# Altium schematic symbol library nexnpvnk_library.SchLib: 128 symbols (part 1 of 2)
Pins are listed as number, name and electrical type; pins without a type are passive.

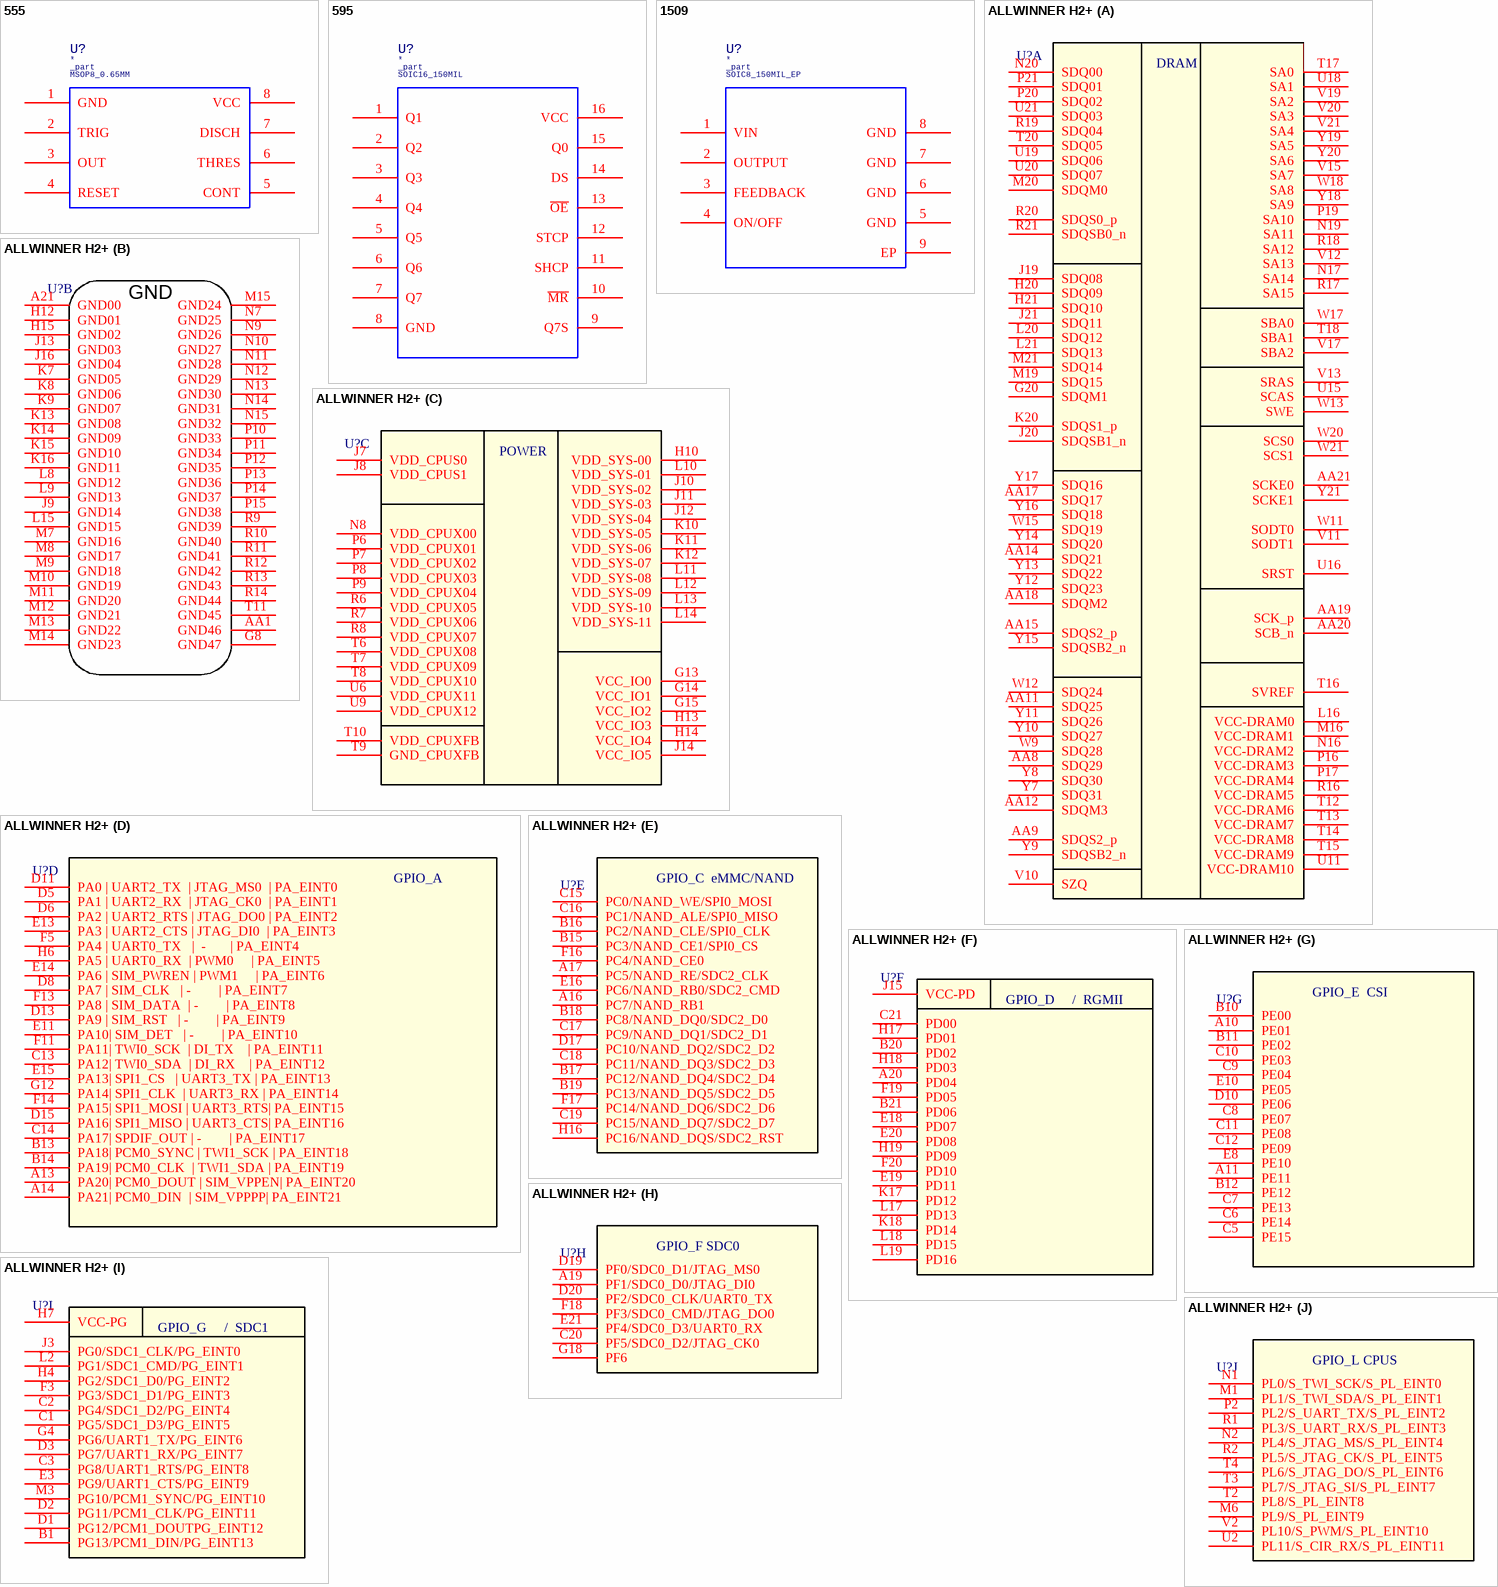
[diagram p0: symbols 555 to ALLWINNER H2+]

## 555
designator U?  Part Reference: _part
Manufacturer: _manufacturer
footprint MSOP8_0.65MM
footprint SOIC8_150MIL
footprint SSOP8
pins: 1 GND, 2 TRIG, 3 OUT, 4 RESET, 5 CONT, 6 THRES, 7 DISCH, 8 VCC

## 595
designator U?  Part Reference: _part
Manufacturer: _manufacturer
footprint SOIC16_150MIL
footprint SSOP16
pins: 1 Q1, 2 Q2, 3 Q3, 4 Q4, 5 Q5, 6 Q6, 7 Q7, 8 GND, 9 Q7S, 10 ~{MR}, 11 SHCP, 12 STCP, 13 ~{OE}, 14 DS, 15 Q0, 16 VCC

## 1509
designator U?  Part Reference: _part
Manufacturer: _manufacturer
footprint SOIC8_150MIL_EP
pins: 1 VIN, 2 OUTPUT, 3 FEEDBACK, 4 ON/OFF, 5 GND, 6 GND, 7 GND, 8 GND, 9 EP

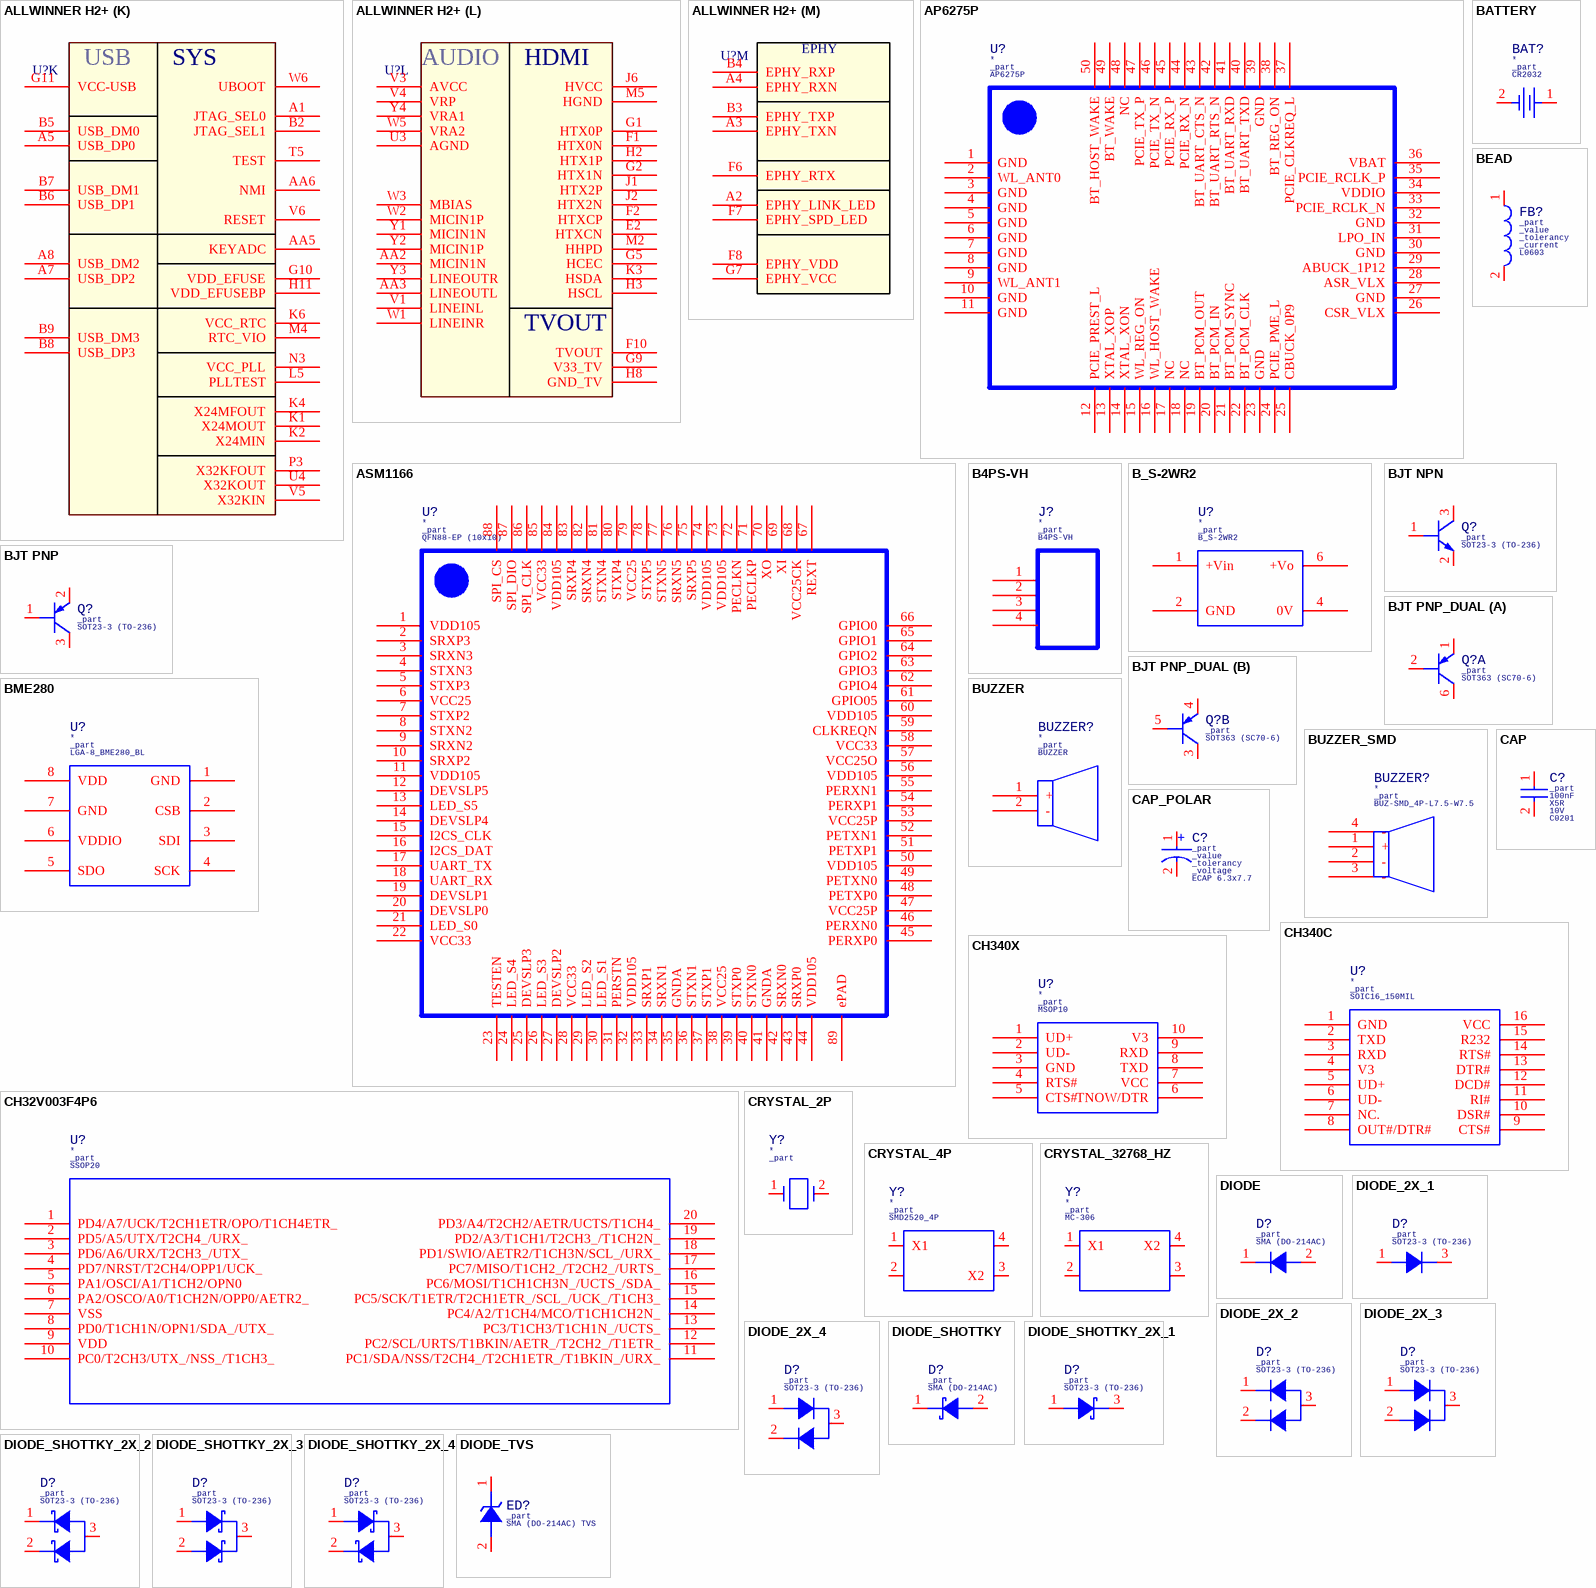
[diagram p1: symbols ALLWINNER H2+ to DIODE_TVS]

## ALLWINNER H2+
designator U?  (value not drawn)
footprint FBGA-347 (BGA, 21-Leads, Body 14,00x14,00mmx1,10mm, Pitch 0,65mm)
part A pins: AA8 SDQ29, AA9 SDQS2_p, AA11 SDQ25, AA12 SDQM3, AA14 SDQ21, AA15 SDQS2_p, AA17 SDQ17, AA18 SDQM2, AA19 SCK_p, AA20 SCB_n, AA21 SCKE0, G20 SDQM1, H20 SDQ09, H21 SDQ10, J19 SDQ08, J20 SDQSB1_n, J21 SDQ11, K20 SDQS1_p, L16 VCC-DRAM0, L20 SDQ12, L21 SDQ13, M16 VCC-DRAM1, M19 SDQ15, M20 SDQM0, M21 SDQ14, N16 VCC-DRAM2, N17 SA14, N19 SA11, N20 SDQ00, P16 VCC-DRAM3, P17 VCC-DRAM4, P19 SA10, P20 SDQ02, P21 SDQ01, R16 VCC-DRAM5, R17 SA15, R18 SA12, R19 SDQ04, R20 SDQS0_p, R21 SDQSB0_n, T12 VCC-DRAM6, T13 VCC-DRAM7, T14 VCC-DRAM8, T15 VCC-DRAM9, T16 SVREF, T17 SA0, T18 SBA1, T20 SDQ05, U11 VCC-DRAM10, U15 SCAS, U16 SRST, U18 SA1, U19 SDQ06, U20 SDQ07, U21 SDQ03, V10 SZQ, V11 SODT1, V12 SA13, V13 SRAS, V15 SA7, V17 SBA2, V19 SA2, V20 SA3, V21 SA4, W9 SDQ28, W11 SODT0, W12 SDQ24, W13 SWE, W15 SDQ19, W17 SBA0, W18 SA8, W20 SCS0, W21 SCS1, Y7 SDQ31, Y8 SDQ30, Y9 SDQSB2_n, Y10 SDQ27, Y11 SDQ26, Y12 SDQ23, Y13 SDQ22, Y14 SDQ20, Y15 SDQSB2_n, Y16 SDQ18, Y17 SDQ16, Y18 SA9, Y19 SA5, Y20 SA6, Y21 SCKE1
part B pins: A21 GND00 "-", AA1 GND46 "-", G8 GND47 "-", H12 GND01 "-", H15 GND02 "-", J9 GND14 "-", J13 GND03 "-", J16 GND04 "-", K7 GND05 "-", K8 GND06 "-", K9 GND07 "-", K13 GND08 "-", K14 GND09 "-", K15 GND10 "-", K16 GND11 "-", L8 GND12 "-", L9 GND13 "-", L15 GND15 "-", M7 GND16 "-", M8 GND17 "-", M9 GND18 "-", M10 GND19 "-", M11 GND20 "-", M12 GND21 "-", M13 GND22 "-", M14 GND23 "-", M15 GND24 "-", N7 GND25 "-", N9 GND26 "-", N10 GND27 "-", N11 GND28 "-", N12 GND29 "-", N13 GND30 "-", N14 GND31 "-", N15 GND32 "-", P10 GND33 "-", P11 GND34 "-", P12 GND35 "-", P13 GND36 "-", P14 GND37 "-", P15 GND38 "-", R9 GND39 "-", R10 GND40 "-", R11 GND41 "-", R12 GND42 "-", R13 GND43 "-", R14 GND44 "-", T11 GND45 "-"
part C pins: G13 VCC_IO0, G14 VCC_IO1, G15 VCC_IO2, H10 VDD_SYS-00, H13 VCC_IO3, H14 VCC_IO4, J7 VDD_CPUS0, J8 VDD_CPUS1, J10 VDD_SYS-02, J11 VDD_SYS-03, J12 VDD_SYS-04, J14 VCC_IO5, K10 VDD_SYS-05, K11 VDD_SYS-06, K12 VDD_SYS-07, L10 VDD_SYS-01, L11 VDD_SYS-08, L12 VDD_SYS-09, L13 VDD_SYS-10, L14 VDD_SYS-11, N8 VDD_CPUX00, P6 VDD_CPUX01, P7 VDD_CPUX02, P8 VDD_CPUX03, P9 VDD_CPUX04, R6 VDD_CPUX05, R7 VDD_CPUX06, R8 VDD_CPUX07, T6 VDD_CPUX08, T7 VDD_CPUX09, T8 VDD_CPUX10, T9 GND_CPUXFB, T10 VDD_CPUXFB, U6 VDD_CPUX11, U9 VDD_CPUX12
part D pins: A13 PA20| PCM0_DOUT | SIM_VPPEN| PA_EINT20, A14 PA21| PCM0_DIN  | SIM_VPPPP| PA_EINT21, B13 PA18| PCM0_SYNC | TWI1_SCK | PA_EINT18, B14 PA19| PCM0_CLK  | TWI1_SDA | PA_EINT19, C13 PA12| TWI0_SDA  | DI_RX    | PA_EINT12, C14 PA17| SPDIF_OUT | -        | PA_EINT17, D5 PA1 | UART2_RX  | JTAG_CK0  | PA_EINT1, D6 PA2 | UART2_RTS | JTAG_DO0 | PA_EINT2, D8 PA7 | SIM_CLK   | -        | PA_EINT7 , D11 PA0 | UART2_TX  | JTAG_MS0  | PA_EINT0, D13 PA9 | SIM_RST   | -        | PA_EINT9, D15 PA16| SPI1_MISO | UART3_CTS| PA_EINT16, E11 PA10| SIM_DET   | -        | PA_EINT10, E13 PA3 | UART2_CTS | JTAG_DI0  | PA_EINT3, E14 PA6 | SIM_PWREN | PWM1     | PA_EINT6, E15 PA13| SPI1_CS   | UART3_TX | PA_EINT13, F5 PA4 | UART0_TX   |  -       | PA_EINT4, F11 PA11| TWI0_SCK  | DI_TX    | PA_EINT11, F13 PA8 | SIM_DATA  | -        | PA_EINT8, F14 PA15| SPI1_MOSI | UART3_RTS| PA_EINT15, G12 PA14| SPI1_CLK  | UART3_RX | PA_EINT14, H6 PA5 | UART0_RX  | PWM0     | PA_EINT5
part E pins: A16 PC7/NAND_RB1, A17 PC5/NAND_RE/SDC2_CLK, B15 PC3/NAND_CE1/SPI0_CS, B16 PC2/NAND_CLE/SPI0_CLK , B17 PC12/NAND_DQ4/SDC2_D4, B18 PC8/NAND_DQ0/SDC2_D0, B19 PC13/NAND_DQ5/SDC2_D5, C15 PC0/NAND_WE/SPI0_MOSI, C16 PC1/NAND_ALE/SPI0_MISO, C17 PC9/NAND_DQ1/SDC2_D1, C18 PC11/NAND_DQ3/SDC2_D3, C19 PC15/NAND_DQ7/SDC2_D7, D17 PC10/NAND_DQ2/SDC2_D2, E16 PC6/NAND_RB0/SDC2_CMD, F16 PC4/NAND_CE0, F17 PC14/NAND_DQ6/SDC2_D6, H16 PC16/NAND_DQS/SDC2_RST
part F pins: A20 PD04, B20 PD02, B21 PD06, C21 PD00, E18 PD07, E19 PD11, E20 PD08, F19 PD05, F20 PD10, H17 PD01, H18 PD03, H19 PD09, J15 VCC-PD, K17 PD12, K18 PD14, L17 PD13, L18 PD15, L19 PD16
part G pins: A10 PE01, A11 PE11, B10 PE00, B11 PE02, B12 PE12, C5 PE15, C6 PE14, C7 PE13, C8 PE07, C9 PE04, C10 PE03, C11 PE08, C12 PE09, D10 PE06, E8 PE10, E10 PE05
part H pins: A19 PF1/SDC0_D0/JTAG_DI0, C20 PF5/SDC0_D2/JTAG_CK0, D19 PF0/SDC0_D1/JTAG_MS0 , D20 PF2/SDC0_CLK/UART0_TX, E21 PF4/SDC0_D3/UART0_RX, F18 PF3/SDC0_CMD/JTAG_DO0, G18 PF6
part I pins: B1 PG13/PCM1_DIN/PG_EINT13, C1 PG5/SDC1_D3/PG_EINT5, C2 PG4/SDC1_D2/PG_EINT4, C3 PG8/UART1_RTS/PG_EINT8, D1 PG12/PCM1_DOUTPG_EINT12, D2 PG11/PCM1_CLK/PG_EINT11, D3 PG7/UART1_RX/PG_EINT7, E3 PG9/UART1_CTS/PG_EINT9, F3 PG3/SDC1_D1/PG_EINT3, G4 PG6/UART1_TX/PG_EINT6, H4 PG2/SDC1_D0/PG_EINT2, H7 VCC-PG, J3 PG0/SDC1_CLK/PG_EINT0, L2 PG1/SDC1_CMD/PG_EINT1, M3 PG10/PCM1_SYNC/PG_EINT10
part J pins: M1 PL1/S_TWI_SDA/S_PL_EINT1, M6 PL9/S_PL_EINT9, N1 PL0/S_TWI_SCK/S_PL_EINT0, N2 PL4/S_JTAG_MS/S_PL_EINT4, P2 PL2/S_UART_TX/S_PL_EINT2, R1 PL3/S_UART_RX/S_PL_EINT3, R2 PL5/S_JTAG_CK/S_PL_EINT5, T2 PL8/S_PL_EINT8, T3 PL7/S_JTAG_SI/S_PL_EINT7, T4 PL6/S_JTAG_DO/S_PL_EINT6, U2 PL11/S_CIR_RX/S_PL_EINT11, V2 PL10/S_PWM/S_PL_EINT10
part K pins: A1 JTAG_SEL0, A5 USB_DP0, A7 USB_DP2, A8 USB_DM2, AA5 KEYADC, AA6 NMI, B2 JTAG_SEL1, B5 USB_DM0, B6 USB_DP1, B7 USB_DM1, B8 USB_DP3, B9 USB_DM3, G10 VDD_EFUSE, G11 VCC-USB, H11 VDD_EFUSEBP, K1 X24MOUT, K2 X24MIN, K4 X24MFOUT, K6 VCC_RTC, L5 PLLTEST, M4 RTC_VIO, N3 VCC_PLL, P3 X32KFOUT, T5 TEST, U4 X32KOUT, V5 X32KIN, V6 RESET, W6 UBOOT
part L pins: AA2 MICIN1N, AA3 LINEOUTL, E2 HTXCN, F1 HTX0N, F2 HTXCP, F10 TVOUT, G1 HTX0P, G2 HTX1N, G5 HCEC, G9 V33_TV, H2 HTX1P, H3 HSCL, H8 GND_TV, J1 HTX2P, J2 HTX2N, J6 HVCC, K3 HSDA, M2 HHPD, M5 HGND, U3 AGND, V1 LINEINL, V3 AVCC, V4 VRP, W1 LINEINR, W2 MICIN1P, W3 MBIAS, W5 VRA2, Y1 MICIN1N, Y2 MICIN1P, Y3 LINEOUTR, Y4 VRA1
part M pins: A2 EPHY_LINK_LED, A3 EPHY_TXN, A4 EPHY_RXN, B3 EPHY_TXP, B4 EPHY_RXP, F6 EPHY_RTX, F7 EPHY_SPD_LED, F8 EPHY_VDD, G7 EPHY_VCC 
part A text: DRAM
part B text: GND
part C text: POWER
part D text: GPIO_A
part E text: GPIO_C  eMMC/NAND
part F text: GPIO_D     /  RGMII
part G text: GPIO_E  CSI
part H text: GPIO_F SDC0
part I text: GPIO_G     /  SDC1
part J text: GPIO_L CPUS
part K text: USB; SYS
part L text: AUDIO; HDMI
part M text: EPHY

## AP6275P
designator U?  Part Reference: _part
Manufacturer: _manufacturer
footprint AP6275P
pins: 1 GND, 2 WL_ANT0, 3 GND, 4 GND, 5 GND, 6 GND, 7 GND, 8 GND, 9 WL_ANT1, 10 GND, 11 GND, 12 PCIE_PREST_L, 13 XTAL_XOP, 14 XTAL_XON, 15 WL_REG_ON, 16 WL_HOST_WAKE, 17 NC, 18 NC, 19 BT_PCM_OUT, 20 BT_PCM_IN, 21 BT_PCM_SYNC, 22 BT_PCM_CLK, 23 GND, 24 PCIE_PME_L, 25 CBUCK_0P9, 26 CSR_VLX, 27 GND, 28 ASR_VLX, 29 ABUCK_1P12, 30 GND, 31 LPO_IN, 32 GND, 33 PCIE_RCLK_N, 34 VDDIO, 35 PCIE_RCLK_P, 36 VBAT, 37 PCIE_CLKREQ_L, 38 BT_REG_ON, 39 GND, 40 BT_UART_TXD, 41 BT_UART_RXD, 42 BT_UART_RTS_N, 43 BT_UART_CTS_N, 44 PCIE_RX_N, 45 PCIE_RX_P, 46 PCIE_TX_N, 47 PCIE_TX_P, 48 NC, 49 BT_WAKE, 50 BT_HOST_WAKE

## ASM1166
designator U?  Part Reference: _part
Manufacturer: _manufacturer
footprint QFN88-EP (10x10) (QFN, 88-Leads, Body 10,00x10,00mm, Pitch 0,40mm, Thermal Pad 5,60x5,60mm, IPC Medium Density)
pins: 1 VDD105, 2 SRXP3, 3 SRXN3, 4 STXN3, 5 STXP3, 6 VCC25, 7 STXP2, 8 STXN2, 9 SRXN2, 10 SRXP2, 11 VDD105, 12 DEVSLP5, 13 LED_S5, 14 DEVSLP4, 15 I2CS_CLK, 16 I2CS_DAT, 17 UART_TX, 18 UART_RX, 19 DEVSLP1, 20 DEVSLP0, 21 LED_S0, 22 VCC33, 23 TESTEN, 24 LED_S4, 25 DEVSLP3, 26 LED_S3, 27 DEVSLP2, 28 VCC33, 29 LED_S2, 30 LED_S1, 31 PERSTN, 32 VDD105, 33 SRXP1, 34 SRXN1, 35 GNDA, 36 STXN1, 37 STXP1, 38 VCC25, 39 STXP0, 40 STXN0, 41 GNDA, 42 SRXN0, 43 SRXP0, 44 VDD105, 45 PERXP0, 46 PERXN0, 47 VCC25P, 48 PETXP0, 49 PETXN0, 50 VDD105, 51 PETXP1, 52 PETXN1, 53 VCC25P, 54 PERXP1, 55 PERXN1, 56 VDD105, 57 VCC25O, 58 VCC33, 59 CLKREQN, 60 VDD105, 61 GPIO05, 62 GPIO4, 63 GPIO3, 64 GPIO2, 65 GPIO1, 66 GPIO0, 67 REXT, 68 VCC25CK, 69 XI, 70 XO, 71 PECLKP, 72 PECLKN, 73 VDD105, 74 VDD105, 75 SRXP5, 76 SRXN5, 77 STXN5, 78 STXP5, 79 VCC25, 80 STXP4, 81 STXN4, 82 SRXN4, 83 SRXP4, 84 VDD105, 85 VCC33, 86 SPI_CLK, 87 SPI_DIO, 88 SPI_CS, 89 ePAD

## B4PS-VH
designator J?  Part Reference: _part
Manufacturer: _manufacturer
footprint B4PS-VH
pins: 1, 2, 3, 4

## B_S-2WR2
designator U?  Part Reference: _part
Manufacturer: _manufacturer
footprint B_S-2WR2
footprint B_S-2WR2_FLAT
pins: 1 +Vin, 2 GND, 4 0V, 6 +Vo

## BATTERY
designator BAT?  Part Reference: _part
Manufacturer: _manufacturer
footprint CR2032 (KLS5-CR2032-01 (BH-642) (CH224-2032))
pins: 1, 2

## BEAD
designator FB?  value _value  Part Reference: _part  Current: _current  Tolerancy: _tolerancy  (hidden comment: *)
Manufacturer: _manufacturer
footprint L0603
footprint L1812
footprint L1206
footprint L0402
pins: 1, 2

## BJT NPN
designator Q?  Part Reference: _part  (hidden comment: *)
Manufacturer: _manufacturer
footprint SOT23-3 (TO-236)
footprint SOT323 (SC70-3)
footprint SOT523 (SC75-3)
footprint SOT723
pins: 1 BASE, 2 EMITTER, 3 COLLECTOR

## BJT PNP
designator Q?  Part Reference: _part  (hidden comment: *)
Manufacturer: _manufacturer
footprint SOT23-3 (TO-236)
footprint SOT323 (SC70-3)
footprint SOT523 (SC75-3)
footprint SOT723
pins: 1 BASE, 2 EMITTER, 3 COLLECTOR

## BJT PNP_DUAL
designator Q?  Part Reference: _part  (hidden comment: *)
Manufacturer: _manufacturer
footprint SOT363 (SC70-6)
part A pins: 1 EMITTER, 2 BASE, 6 COLLECTOR
part B pins: 3 COLLECTOR, 4 EMITTER, 5 BASE

## BME280
designator U?  Part Reference: _part
Manufacturer: _manufacturer
footprint LGA-8_BME280_BL
pins: 1 GND, 2 CSB, 3 SDI, 4 SCK, 5 SDO, 6 VDDIO, 7 GND, 8 VDD

## BUZZER
designator BUZZER?  Part Reference: _part
Manufacturer: _manufacturer
footprint BUZZER
pins: 1 +, 2 -

## BUZZER_SMD
designator BUZZER?  Part Reference: _part
Manufacturer: _manufacturer
footprint BUZ-SMD_4P-L7.5-W7.5
pins: 1 +, 2 -, 3 -, 4 -

## CAP
designator C?  value 100nF  Part Reference: _part  Voltage: 10V  Dielectric: X5R  (hidden comment: *)
Manufacturer: _manufacturer
footprint C0201
footprint C0402
footprint C0603
footprint C0805
footprint C1206
pins: 1, 2

## CAP_POLAR
designator C?  value _value  Part Reference: _part  Voltage: _voltage  Tolerancy: _tolerancy  (hidden comment: *)
Manufacturer: _manufacturer
footprint ECAP 6.3x7.7 (Aluminum Electrolytic Capacitor, Body 6,60x6,60x8,50mm, IPC Low Density)
footprint CASE A
footprint ECAP 5X5.4 (Aluminum Electrolytic Capacitor, Body 5,30x5,30x5,50mm, IPC Low Density)
footprint ECAP 8x10 (Aluminum Electrolytic Capacitor, Body 8,30x8,30x10,80mm, IPC Low Density)
footprint CAP-TH_D8.0_L12.0_P3.5
footprint CAP-TH_D8.0_L12.0_P3.5_LA_FLAT
footprint CAP-TH_D8.0_L12.0_P3.5_RA_FLAT
pins: 1, 2
text: +

## CH32V003F4P6
designator U?  Part Reference: _part
Manufacturer: _manufacturer
footprint SSOP20
pins: 1 PD4/A7/UCK/T2CH1ETR/OPO/T1CH4ETR_, 2 PD5/A5/UTX/T2CH4_/URX_, 3 PD6/A6/URX/T2CH3_/UTX_, 4 PD7/NRST/T2CH4/OPP1/UCK_, 5 PA1/OSCI/A1/T1CH2/OPN0, 6 PA2/OSCO/A0/T1CH2N/OPP0/AETR2_, 7 VSS, 8 PD0/T1CH1N/OPN1/SDA_/UTX_, 9 VDD, 10 PC0/T2CH3/UTX_/NSS_/T1CH3_, 11 PC1/SDA/NSS/T2CH4_/T2CH1ETR_/T1BKIN_/URX_, 12 PC2/SCL/URTS/T1BKIN/AETR_/T2CH2_/T1ETR_, 13 PC3/T1CH3/T1CH1N_/UCTS_, 14 PC4/A2/T1CH4/MCO/T1CH1CH2N_, 15 PC5/SCK/T1ETR/T2CH1ETR_/SCL_/UCK_/T1CH3_, 16 PC6/MOSI/T1CH1CH3N_/UCTS_/SDA_, 17 PC7/MISO/T1CH2_/T2CH2_/URTS_, 18 PD1/SWIO/AETR2/T1CH3N/SCL_/URX_, 19 PD2/A3/T1CH1/T2CH3_/T1CH2N_, 20 PD3/A4/T2CH2/AETR/UCTS/T1CH4_

## CH340C
designator U?  Part Reference: _part
Manufacturer: _manufacturer
footprint SOIC16_150MIL
pins: 1 GND, 2 TXD, 3 RXD, 4 V3, 5 UD+, 6 UD-, 7 NC., 8 OUT#/DTR#, 9 CTS#, 10 DSR#, 11 RI#, 12 DCD#, 13 DTR#, 14 RTS#, 15 R232, 16 VCC

## CH340X
designator U?  Part Reference: _part
Manufacturer: _manufacturer
footprint MSOP10
pins: 1 UD+, 2 UD-, 3 GND, 4 RTS#, 5 CTS#, 6 TNOW/DTR, 7 VCC, 8 TXD, 9 RXD, 10 V3

## CRYSTAL_2P
designator Y?  Part Reference: _part
Manufacturer: _manufacturer
pins: 1, 2

## CRYSTAL_4P
designator Y?  Part Reference: _part
Manufacturer: _manufacturer
footprint SMD2520_4P
footprint SMD3225_4P
pins: 1 X1, 2 (power), 3 X2, 4 (power)

## CRYSTAL_32768_HZ
designator Y?  Part Reference: _part
Manufacturer: _manufacturer
footprint MC-306
pins: 1 X1, 2 (power), 3 (power), 4 X2

## DIODE
designator D?  Part Reference: _part  (hidden comment: *)
Manufacturer: _manufacturer
footprint SMA (DO-214AC)
footprint SMB (DO-214AA) (Molded Diode, 2-Leads, Body 4,31x3,62mm, IPC Low Density)
footprint SOD80 (MiniMELF) (SOD80 - MiniMELF - MMA - DO-213AA)
footprint SOD123FL (DO-219AB)
footprint SOD323 (SC-76A)
footprint SOD323FL (SC-90)
pins: 1 C, 2 A

## DIODE_2X_1
designator D?  Part Reference: _part  (hidden comment: *)
Manufacturer: _manufacturer
footprint SOT23-3 (TO-236)
pins: 1 A, 3 C

## DIODE_2X_2
designator D?  Part Reference: _part  (hidden comment: *)
Manufacturer: _manufacturer
footprint SOT23-3 (TO-236)
pins: 1 C1, 2 C2, 3 A

## DIODE_2X_3
designator D?  Part Reference: _part  (hidden comment: *)
Manufacturer: _manufacturer
footprint SOT23-3 (TO-236)
pins: 1 A1, 2 A2, 3 C

## DIODE_2X_4
designator D?  Part Reference: _part  (hidden comment: *)
Manufacturer: _manufacturer
footprint SOT23-3 (TO-236)
pins: 1 A, 2 C, 3 COMMON

## DIODE_SHOTTKY
designator D?  Part Reference: _part  (hidden comment: *)
Manufacturer: _manufacturer
footprint SMA (DO-214AC)
footprint SMB (DO-214AA) (Molded Diode, 2-Leads, Body 4,31x3,62mm, IPC Low Density)
footprint SOD80 (MiniMELF) (SOD80 - MiniMELF - MMA - DO-213AA)
footprint SOD123FL (DO-219AB)
footprint SOD323F
pins: 1 C, 2 A

## DIODE_SHOTTKY_2X_1
designator D?  Part Reference: _part  (hidden comment: *)
Manufacturer: _manufacturer
footprint SOT23-3 (TO-236)
pins: 1 A, 3 C

## DIODE_SHOTTKY_2X_2
designator D?  Part Reference: _part  (hidden comment: *)
Manufacturer: _manufacturer
footprint SOT23-3 (TO-236)
pins: 1 C1, 2 C2, 3 A

## DIODE_SHOTTKY_2X_3
designator D?  Part Reference: _part  (hidden comment: *)
Manufacturer: _manufacturer
footprint SOT23-3 (TO-236)
pins: 1 A1, 2 A2, 3 C

## DIODE_SHOTTKY_2X_4
designator D?  Part Reference: _part  (hidden comment: *)
Manufacturer: _manufacturer
footprint SOT23-3 (TO-236)
pins: 1 A, 2 C, 3 COMMON

## DIODE_TVS
designator ED?  Part Reference: _part  (hidden comment: *)
Manufacturer: _manufacturer
footprint SMA (DO-214AC) TVS
footprint SOD123FL
footprint SOD323F
footprint SMB (DO-214AA) TVS (Molded Diode, 2-Leads, Body 4,31x3,62mm, IPC Low Density)
pins: 1 C, 2 A

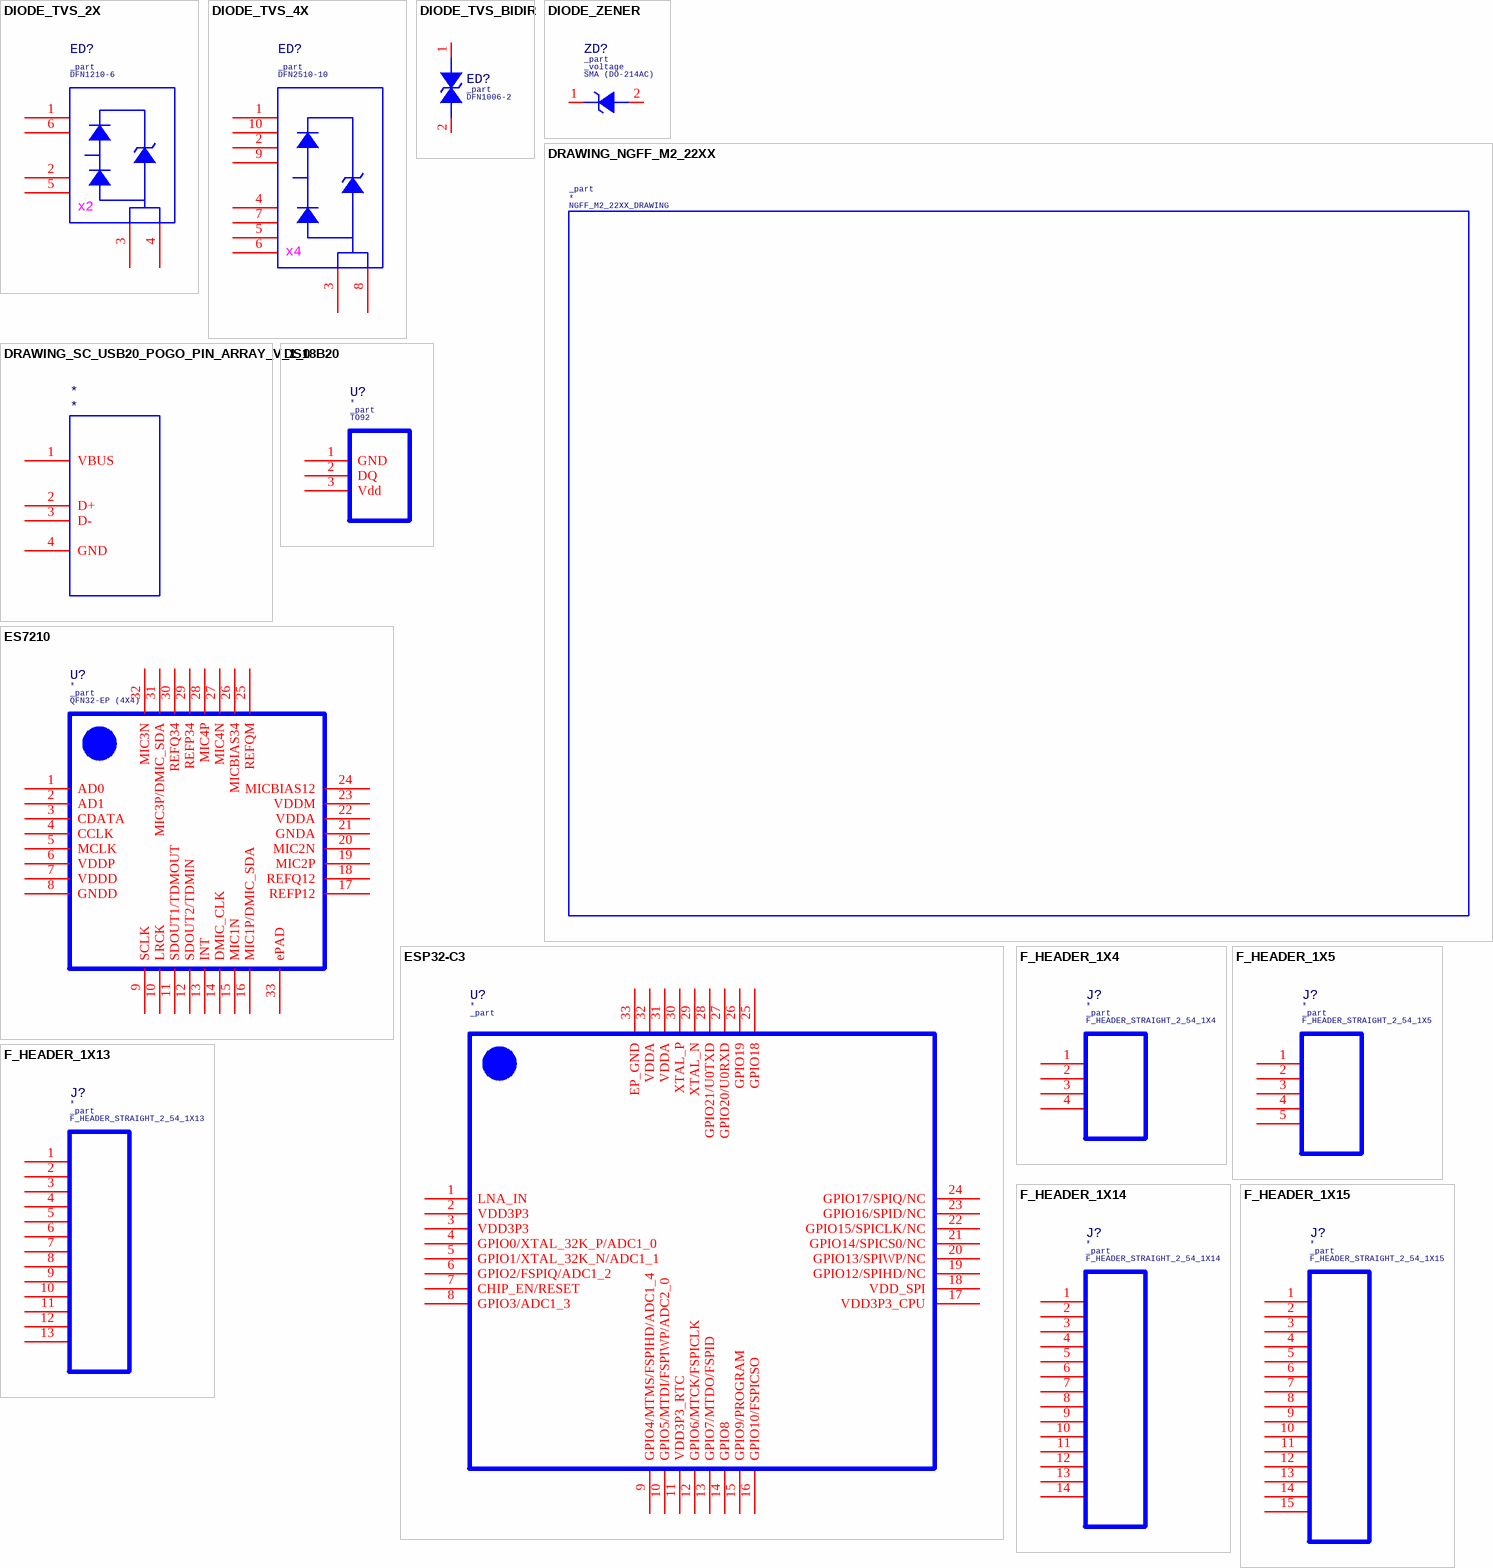
[diagram p2: symbols DIODE_TVS_2X to F_HEADER_1X15]

## DIODE_TVS_2X
designator ED?  Part Reference: _part  (hidden comment: *)
Manufacturer: _manufacturer
footprint DFN1210-6
pins: 1, 2, 3, 4, 5, 6
text: x2

## DIODE_TVS_4X
designator ED?  Part Reference: _part  (hidden comment: *)
Manufacturer: _manufacturer
footprint DFN2510-10
pins: 1, 2, 3, 4, 5, 6, 7, 8, 9, 10
text: x4

## DIODE_TVS_BIDIR
designator ED?  Part Reference: _part  (hidden comment: *)
Manufacturer: _manufacturer
footprint DFN1006-2
footprint SMA (DO-214AC) TVS BIDIRECTIONAL
footprint SMC (DO-214AB) TVS BIDIRECTIONAL (Molded Diode, 2-Leads, Body 6,86x5,91mm, IPC Low Density)
footprint SMB (DO-214AA) TVS BIDIRECTIONAL (Molded Diode, 2-Leads, Body 4,31x3,62mm, IPC Low Density)
pins: 1, 2

## DIODE_ZENER
designator ZD?  Voltage: _voltage  Part Reference: _part  (hidden comment: *)
Manufacturer: _manufacturer
footprint SMA (DO-214AC)
footprint SMB (DO-214AA) (Molded Diode, 2-Leads, Body 4,31x3,62mm, IPC Low Density)
footprint SOD80 (MiniMELF) (SOD80 - MiniMELF - MMA - DO-213AA)
footprint SOD123FL (DO-219AB)
footprint SOD323FL (SC-90)
footprint SOD323 (SC-76A)
pins: 1 C, 2 A

## DRAWING_NGFF_M2_22XX
designator DRAWING?  Part Reference: _part  (no BOM)
Manufacturer: _manufacturer
footprint NGFF_M2_22XX_DRAWING
footprint NGFF_M2_2230_DRAWING
footprint NGFF_M2_2242_DRAWING
footprint NGFF_M2_2260_DRAWING
footprint NGFF_M2_2280_DRAWING
footprint NGFF_M2_22110_DRAWING

## DRAWING_SC_USB20_POGO_PIN_ARRAY_V_1_0
designator *  (no BOM)
Manufacturer: _manufacturer; Procurement Type: DNP
pins: 1 VBUS, 2 D+, 3 D-, 4 GND

## DS18B20
designator U?  Part Reference: _part
Manufacturer: _manufacturer
footprint TO92
pins: 1 GND, 2 DQ, 3 Vdd

## ES7210
designator U?  Part Reference: _part
Manufacturer: _manufacturer
footprint QFN32-EP (4X4) (QFN, 32-Leads, Body 4,00x4,00mm, Pitch 0,40mm, Thermal Pad 2,80x2,80mm, IPC Medium Density)
pins: 1 AD0, 2 AD1, 3 CDATA, 4 CCLK, 5 MCLK, 6 VDDP, 7 VDDD, 8 GNDD, 9 SCLK, 10 LRCK, 11 SDOUT1/TDMOUT, 12 SDOUT2/TDMIN, 13 INT, 14 DMIC_CLK, 15 MIC1N, 16 MIC1P/DMIC_SDA, 17 REFP12, 18 REFQ12, 19 MIC2P, 20 MIC2N, 21 GNDA, 22 VDDA, 23 VDDM, 24 MICBIAS12, 25 REFQM, 26 MICBIAS34, 27 MIC4N, 28 MIC4P, 29 REFP34, 30 REFQ34, 31 MIC3P/DMIC_SDA, 32 MIC3N, 33 ePAD

## ESP32-C3
designator U?  Part Reference: _part
Manufacturer: _manufacturer
pins: 1 LNA_IN, 2 VDD3P3, 3 VDD3P3, 4 GPIO0/XTAL_32K_P/ADC1_0, 5 GPIO1/XTAL_32K_N/ADC1_1, 6 GPIO2/FSPIQ/ADC1_2, 7 CHIP_EN/RESET, 8 GPIO3/ADC1_3, 9 GPIO4/MTMS/FSPIHD/ADC1_4, 10 GPIO5/MTDI/FSPIWP/ADC2_0, 11 VDD3P3_RTC, 12 GPIO6/MTCK/FSPICLK, 13 GPIO7/MTDO/FSPID, 14 GPIO8, 15 GPIO9/PROGRAM, 16 GPIO10/FSPICSO, 17 VDD3P3_CPU, 18 VDD_SPI, 19 GPIO12/SPIHD/NC, 20 GPIO13/SPIWP/NC, 21 GPIO14/SPICS0/NC, 22 GPIO15/SPICLK/NC, 23 GPIO16/SPID/NC, 24 GPIO17/SPIQ/NC, 25 GPIO18, 26 GPIO19, 27 GPIO20/U0RXD, 28 GPIO21/U0TXD, 29 XTAL_N, 30 XTAL_P, 31 VDDA, 32 VDDA, 33 EP_GND

## F_HEADER_1X4
designator J?  Part Reference: _part
Manufacturer: _manufacturer
footprint F_HEADER_STRAIGHT_2_54_1X4
pins: 1, 2, 3, 4

## F_HEADER_1X5
designator J?  Part Reference: _part
Manufacturer: _manufacturer
footprint F_HEADER_STRAIGHT_2_54_1X5
pins: 1, 2, 3, 4, 5

## F_HEADER_1X13
designator J?  Part Reference: _part
Manufacturer: _manufacturer
footprint F_HEADER_STRAIGHT_2_54_1X13
pins: 1, 2, 3, 4, 5, 6, 7, 8, 9, 10, 11, 12, 13

## F_HEADER_1X14
designator J?  Part Reference: _part
Manufacturer: _manufacturer
footprint F_HEADER_STRAIGHT_2_54_1X14
pins: 1, 2, 3, 4, 5, 6, 7, 8, 9, 10, 11, 12, 13, 14

## F_HEADER_1X15
designator J?  Part Reference: _part
Manufacturer: _manufacturer
footprint F_HEADER_STRAIGHT_2_54_1X15
pins: 1, 2, 3, 4, 5, 6, 7, 8, 9, 10, 11, 12, 13, 14, 15

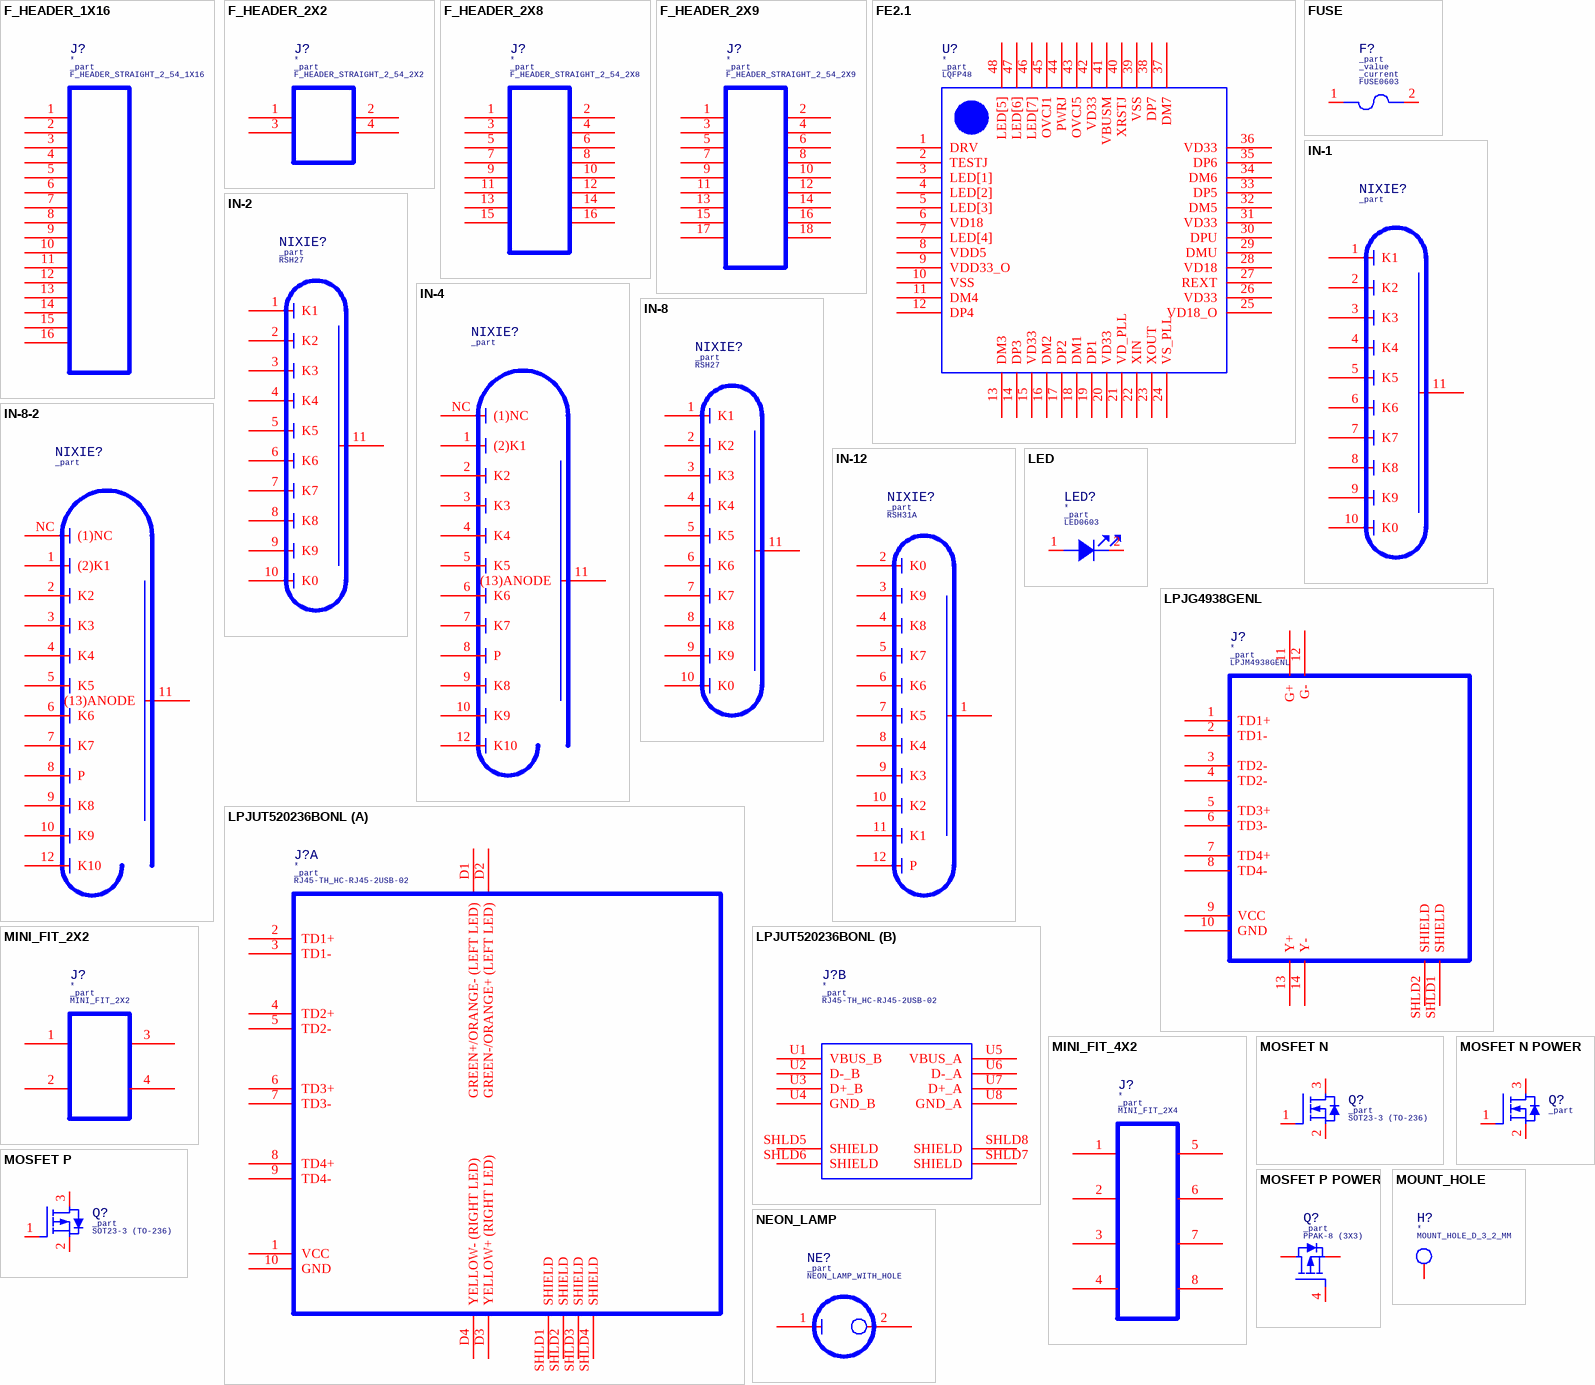
[diagram p3: symbols F_HEADER_1X16 to NEON_LAMP]

## F_HEADER_1X16
designator J?  Part Reference: _part
Manufacturer: _manufacturer
footprint F_HEADER_STRAIGHT_2_54_1X16
pins: 1, 2, 3, 4, 5, 6, 7, 8, 9, 10, 11, 12, 13, 14, 15, 16

## F_HEADER_2X2
designator J?  Part Reference: _part
Manufacturer: _manufacturer
footprint F_HEADER_STRAIGHT_2_54_2X2
pins: 1, 2, 3, 4

## F_HEADER_2X8
designator J?  Part Reference: _part
Manufacturer: _manufacturer
footprint F_HEADER_STRAIGHT_2_54_2X8
pins: 1, 2, 3, 4, 5, 6, 7, 8, 9, 10, 11, 12, 13, 14, 15, 16

## F_HEADER_2X9
designator J?  Part Reference: _part
Manufacturer: _manufacturer
footprint F_HEADER_STRAIGHT_2_54_2X9
pins: 1, 2, 3, 4, 5, 6, 7, 8, 9, 10, 11, 12, 13, 14, 15, 16, 17, 18

## FE2.1
designator U?  Part Reference: _part
Manufacturer: _manufacturer
footprint LQFP48
pins: 1 DRV, 2 TESTJ, 3 LED[1], 4 LED[2], 5 LED[3], 6 VD18, 7 LED[4], 8 VDD5, 9 VDD33_O, 10 VSS, 11 DM4, 12 DP4, 13 DM3, 14 DP3, 15 VD33, 16 DM2, 17 DP2, 18 DM1, 19 DP1, 20 VD33, 21 VD_PLL, 22 XIN, 23 XOUT, 24 VS_PLL, 25 VD18_O, 26 VD33, 27 REXT, 28 VD18, 29 DMU, 30 DPU, 31 VD33, 32 DM5, 33 DP5, 34 DM6, 35 DP6, 36 VD33, 37 DM7, 38 DP7, 39 VSS, 40 XRSTJ, 41 VBUSM, 42 VD33, 43 OVCJ5, 44 PWRJ, 45 OVCJ1, 46 LED[7], 47 LED[6], 48 LED[5]

## FUSE
designator F?  value _value  Part Reference: _part  Current: _current  (hidden comment: *)
Manufacturer: _manufacturer
footprint FUSE0603
footprint FUSE0805
footprint FUSE1210 (Chip Resistor, 2-Leads, Body 3,20x2,50mm, IPC Medium Density)
pins: 1, 2

## IN-1
designator NIXIE?  Part Reference: _part  (hidden comment: *)  (no BOM)
Manufacturer: _manufacturer; Procurement Type: DNP
pins: 1 K1, 2 K2, 3 K3, 4 K4, 5 K5, 6 K6, 7 K7, 8 K8, 9 K9, 10 K0, 11 ANODE

## IN-2
designator NIXIE?  Part Reference: _part  (hidden comment: *)  (no BOM)
Manufacturer: _manufacturer; Procurement Type: DNP
footprint RSH27
pins: 1 K1, 2 K2, 3 K3, 4 K4, 5 K5, 6 K6, 7 K7, 8 K8, 9 K9, 10 K0, 11 ANODE

## IN-4
designator NIXIE?  Part Reference: _part  (hidden comment: *)  (no BOM)
Manufacturer: _manufacturer; Procurement Type: DNP
pins: 1 (2)K1, 2 K2, 3 K3, 4 K4, 5 K5, 6 K6, 7 K7, 8 P, 9 K8, 10 K9, 11 (13)ANODE, 12 K10, NC (1)NC

## IN-8
designator NIXIE?  Part Reference: _part  (hidden comment: *)  (no BOM)
Manufacturer: _manufacturer; Procurement Type: DNP
footprint RSH27
pins: 1 K1, 2 K2, 3 K3, 4 K4, 5 K5, 6 K6, 7 K7, 8 K8, 9 K9, 10 K0, 11 ANODE

## IN-8-2
designator NIXIE?  Part Reference: _part  (hidden comment: *)  (no BOM)
Manufacturer: _manufacturer; Procurement Type: DNP
pins: 1 (2)K1, 2 K2, 3 K3, 4 K4, 5 K5, 6 K6, 7 K7, 8 P, 9 K8, 10 K9, 11 (13)ANODE, 12 K10, NC (1)NC

## IN-12
designator NIXIE?  Part Reference: _part  (hidden comment: *)  (no BOM)
Manufacturer: USSR; Procurement Type: DNP
footprint RSH31A (IN-12A, IN-12B, IN-15A, IN-15B)
pins: 1 ANODE, 2 K0, 3 K9, 4 K8, 5 K7, 6 K6, 7 K5, 8 K4, 9 K3, 10 K2, 11 K1, 12 P

## LED
designator LED?  Part Reference: _part
Manufacturer: _manufacturer
footprint LED0603
footprint LED0805
footprint LED3528
pins: 1 C, 2 A

## LPJG4938GENL
designator J?  Part Reference: _part
Manufacturer: _manufacturer
footprint LPJM4938GENL (2.5G Base-T RJ45 Jack With Magnetics Single Port Green/Yellow Led)
pins: 1 TD1+, 2 TD1-, 3 TD2-, 4 TD2-, 5 TD3+, 6 TD3-, 7 TD4+, 8 TD4-, 9 VCC, 10 GND, 11 G+, 12 G-, 13 Y+, 14 Y-, SHLD1 SHIELD, SHLD2 SHIELD

## LPJUT520236BONL
designator J?  Part Reference: _part
RJ45 Connector with 2.5G BASE-TX / JACK/Dual USB 2.0 Combo; Manufacturer: _manufacturer
footprint RJ45-TH_HC-RJ45-2USB-02
part A pins: 1 VCC, 2 TD1+, 3 TD1-, 4 TD2+, 5 TD2-, 6 TD3+, 7 TD3-, 8 TD4+, 9 TD4-, 10 GND, D1 GREEN+/ORANGE- (LEFT LED), D2 GREEN-/ORANGE+ (LEFT LED), D3 YELLOW+ (RIGHT LED), D4 YELLOW- (RIGHT LED), SHLD1 SHIELD, SHLD2 SHIELD, SHLD3 SHIELD, SHLD4 SHIELD
part B pins: SHLD5 SHIELD, SHLD6 SHIELD, SHLD7 SHIELD, SHLD8 SHIELD, U1 VBUS_B, U2 D-_B, U3 D+_B, U4 GND_B, U5 VBUS_A, U6 D-_A, U7 D+_A, U8 GND_A

## MINI_FIT_2X2
designator J?  Part Reference: _part
Manufacturer: _manufacturer
footprint MINI_FIT_2X2
pins: 1, 2, 3, 4

## MINI_FIT_4X2
designator J?  Part Reference: _part
Manufacturer: _manufacturer
footprint MINI_FIT_2X4
pins: 1, 2, 3, 4, 5, 6, 7, 8

## MOSFET N
designator Q?  Part Reference: _part  (hidden comment: *)
Manufacturer: _manufacturer
footprint SOT23-3 (TO-236)
footprint SOT323 (SC70-3)
footprint SOT523 (SC75-3)
footprint SOT723
footprint DPAK (TO-252-3) (Footprint not found)
pins: 1 GATE, 2 SOURCE, 3 DRAIN

## MOSFET N POWER
designator Q?  Part Reference: _part  (hidden comment: *)
Manufacturer: _manufacturer
pins: 1 GATE, 2 SOURCE, 3 DRAIN

## MOSFET P
designator Q?  Part Reference: _part  (hidden comment: *)
Manufacturer: _manufacturer
footprint SOT23-3 (TO-236)
footprint SOT323 (SC70-3)
footprint SOT523 (SC75-3)
footprint SOT723
pins: 1 GATE, 2 SOURCE, 3 DRAIN

## MOSFET P POWER
designator Q?  Part Reference: _part  (hidden comment: *)
Manufacturer: _manufacturer
footprint PPAK-8 (3X3)
footprint PDFN5x6-8L
pins: 1 S, 2 S, 3 S, 4 GATE, 5 DRAIN, 6 DRAIN, 7 DRAIN, 8 DRAIN

## MOUNT_HOLE
designator H?  (no BOM)
Manufacturer: _manufacturer; Procurement Type: DNP
footprint MOUNT_HOLE_D_3_2_MM
pins: 1

## NEON_LAMP
designator NE?  Part Reference: _part  (hidden comment: *)  (no BOM)
INS-1, IN-3; Manufacturer: USSR; Procurement Type: DNP
footprint NEON_LAMP_WITH_HOLE (INS-1, IN-3)
footprint NEON_LAMP_WITH_HOLE_NEW (INS-1, IN-3)
pins: 1 ANODE, 2 CATHODE

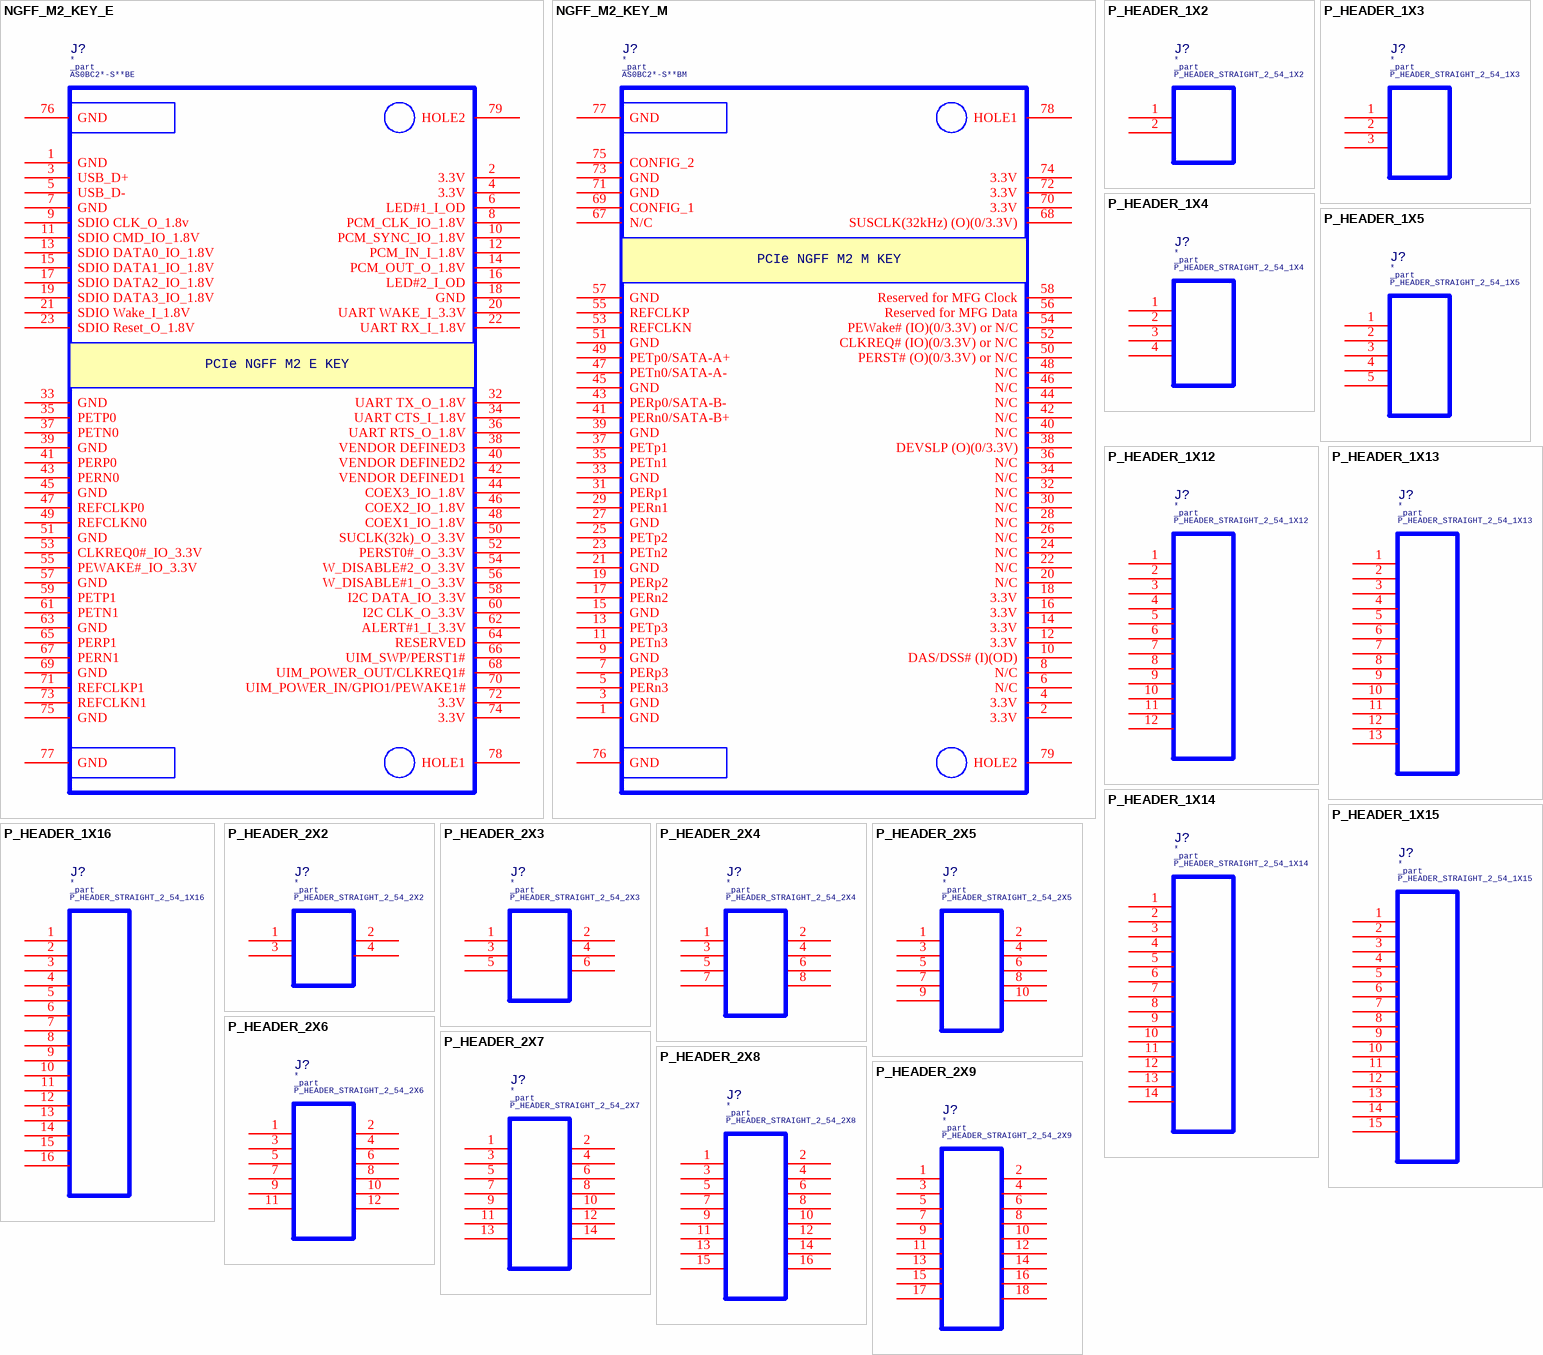
[diagram p4: symbols NGFF_M2_KEY_E to P_HEADER_2X9]

## NGFF_M2_KEY_E
designator J?  Part Reference: _part
Manufacturer: _manufacturer
footprint AS0BC2*-S**BE
pins: 1 GND, 2 3.3V, 3 USB_D+, 4 3.3V, 5 USB_D-, 6 LED#1_I_OD, 7 GND, 8 PCM_CLK_IO_1.8V, 9 SDIO CLK_O_1.8v, 10 PCM_SYNC_IO_1.8V, 11 SDIO CMD_IO_1.8V, 12 PCM_IN_I_1.8V, 13 SDIO DATA0_IO_1.8V, 14 PCM_OUT_O_1.8V, 15 SDIO DATA1_IO_1.8V, 16 LED#2_I_OD, 17 SDIO DATA2_IO_1.8V, 18 GND, 19 SDIO DATA3_IO_1.8V, 20 UART WAKE_I_3.3V, 21 SDIO Wake_I_1.8V, 22 UART RX_I_1.8V, 23 SDIO Reset_O_1.8V, 32 UART TX_O_1.8V, 33 GND, 34 UART CTS_I_1.8V, 35 PETP0, 36 UART RTS_O_1.8V, 37 PETN0, 38 VENDOR DEFINED3, 39 GND, 40 VENDOR DEFINED2, 41 PERP0, 42 VENDOR DEFINED1, 43 PERN0, 44 COEX3_IO_1.8V, 45 GND, 46 COEX2_IO_1.8V, 47 REFCLKP0, 48 COEX1_IO_1.8V, 49 REFCLKN0, 50 SUCLK(32k)_O_3.3V, 51 GND, 52 PERST0#_O_3.3V, 53 CLKREQ0#_IO_3.3V, 54 W_DISABLE#2_O_3.3V, 55 PEWAKE#_IO_3.3V, 56 W_DISABLE#1_O_3.3V, 57 GND, 58 I2C DATA_IO_3.3V, 59 PETP1, 60 I2C CLK_O_3.3V, 61 PETN1, 62 ALERT#1_I_3.3V, 63 GND, 64 RESERVED, 65 PERP1, 66 UIM_SWP/PERST1#, 67 PERN1, 68 UIM_POWER_OUT/CLKREQ1#, 69 GND, 70 UIM_POWER_IN/GPIO1/PEWAKE1#, 71 REFCLKP1, 72 3.3V, 73 REFCLKN1, 74 3.3V, 75 GND, 76 GND, 77 GND, 78 HOLE1, 79 HOLE2
text: PCIe NGFF M2 E KEY

## NGFF_M2_KEY_M
designator J?  Part Reference: _part
Manufacturer: _manufacturer
footprint AS0BC2*-S**BM
pins: 1 GND, 2 3.3V, 3 GND, 4 3.3V, 5 PERn3, 6 N/C, 7 PERp3, 8 N/C, 9 GND, 10 DAS/DSS# (I)(OD), 11 PETn3, 12 3.3V, 13 PETp3, 14 3.3V, 15 GND, 16 3.3V, 17 PERn2, 18 3.3V, 19 PERp2, 20 N/C, 21 GND, 22 N/C, 23 PETn2, 24 N/C, 25 PETp2, 26 N/C, 27 GND, 28 N/C, 29 PERn1, 30 N/C, 31 PERp1, 32 N/C, 33 GND, 34 N/C, 35 PETn1, 36 N/C, 37 PETp1, 38 DEVSLP (O)(0/3.3V), 39 GND, 40 N/C, 41 PERn0/SATA-B+, 42 N/C, 43 PERp0/SATA-B-, 44 N/C, 45 GND, 46 N/C, 47 PETn0/SATA-A-, 48 N/C, 49 PETp0/SATA-A+, 50 PERST# (O)(0/3.3V) or N/C, 51 GND, 52 CLKREQ# (IO)(0/3.3V) or N/C, 53 REFCLKN, 54 PEWake# (IO)(0/3.3V) or N/C, 55 REFCLKP, 56 Reserved for MFG Data, 57 GND, 58 Reserved for MFG Clock, 67 N/C, 68 SUSCLK(32kHz) (O)(0/3.3V), 69 CONFIG_1, 70 3.3V, 71 GND, 72 3.3V, 73 GND, 74 3.3V, 75 CONFIG_2, 76 GND, 77 GND, 78 HOLE1, 79 HOLE2
text: PCIe NGFF M2 M KEY

## P_HEADER_1X2
designator J?  Part Reference: _part
Manufacturer: _manufacturer
footprint P_HEADER_STRAIGHT_2_54_1X2
pins: 1, 2

## P_HEADER_1X3
designator J?  Part Reference: _part
Manufacturer: _manufacturer
footprint P_HEADER_STRAIGHT_2_54_1X3
pins: 1, 2, 3

## P_HEADER_1X4
designator J?  Part Reference: _part
Manufacturer: _manufacturer
footprint P_HEADER_STRAIGHT_2_54_1X4
footprint P_HEADER_RIGHT_ANGLE_2_54_1X4
pins: 1, 2, 3, 4

## P_HEADER_1X5
designator J?  Part Reference: _part
Manufacturer: _manufacturer
footprint P_HEADER_STRAIGHT_2_54_1X5
pins: 1, 2, 3, 4, 5

## P_HEADER_1X12
designator J?  Part Reference: _part
Manufacturer: _manufacturer
footprint P_HEADER_STRAIGHT_2_54_1X12 (Footprint not found)
footprint P_HEADER_RIGHT_ANGLE_2_54_1X12
pins: 1, 2, 3, 4, 5, 6, 7, 8, 9, 10, 11, 12

## P_HEADER_1X13
designator J?  Part Reference: _part
Manufacturer: _manufacturer
footprint P_HEADER_STRAIGHT_2_54_1X13
pins: 1, 2, 3, 4, 5, 6, 7, 8, 9, 10, 11, 12, 13

## P_HEADER_1X14
designator J?  Part Reference: _part
Manufacturer: _manufacturer
footprint P_HEADER_STRAIGHT_2_54_1X14
pins: 1, 2, 3, 4, 5, 6, 7, 8, 9, 10, 11, 12, 13, 14

## P_HEADER_1X15
designator J?  Part Reference: _part
Manufacturer: _manufacturer
footprint P_HEADER_STRAIGHT_2_54_1X15
pins: 1, 2, 3, 4, 5, 6, 7, 8, 9, 10, 11, 12, 13, 14, 15

## P_HEADER_1X16
designator J?  Part Reference: _part
Manufacturer: _manufacturer
footprint P_HEADER_STRAIGHT_2_54_1X16
pins: 1, 2, 3, 4, 5, 6, 7, 8, 9, 10, 11, 12, 13, 14, 15, 16

## P_HEADER_2X2
designator J?  Part Reference: _part
Manufacturer: _manufacturer
footprint P_HEADER_STRAIGHT_2_54_2X2 (Footprint not found)
pins: 1, 2, 3, 4

## P_HEADER_2X3
designator J?  Part Reference: _part
Manufacturer: _manufacturer
footprint P_HEADER_STRAIGHT_2_54_2X3 (Footprint not found)
pins: 1, 2, 3, 4, 5, 6

## P_HEADER_2X4
designator J?  Part Reference: _part
Manufacturer: _manufacturer
footprint P_HEADER_STRAIGHT_2_54_2X4 (Footprint not found)
pins: 1, 2, 3, 4, 5, 6, 7, 8

## P_HEADER_2X5
designator J?  Part Reference: _part
Manufacturer: _manufacturer
footprint P_HEADER_STRAIGHT_2_54_2X5 (Footprint not found)
pins: 1, 2, 3, 4, 5, 6, 7, 8, 9, 10

## P_HEADER_2X6
designator J?  Part Reference: _part
Manufacturer: _manufacturer
footprint P_HEADER_STRAIGHT_2_54_2X6 (Footprint not found)
pins: 1, 2, 3, 4, 5, 6, 7, 8, 9, 10, 11, 12

## P_HEADER_2X7
designator J?  Part Reference: _part
Manufacturer: _manufacturer
footprint P_HEADER_STRAIGHT_2_54_2X7 (Footprint not found)
pins: 1, 2, 3, 4, 5, 6, 7, 8, 9, 10, 11, 12, 13, 14

## P_HEADER_2X8
designator J?  Part Reference: _part
Manufacturer: _manufacturer
footprint P_HEADER_STRAIGHT_2_54_2X8
pins: 1, 2, 3, 4, 5, 6, 7, 8, 9, 10, 11, 12, 13, 14, 15, 16

## P_HEADER_2X9
designator J?  Part Reference: _part
Manufacturer: _manufacturer
footprint P_HEADER_STRAIGHT_2_54_2X9
pins: 1, 2, 3, 4, 5, 6, 7, 8, 9, 10, 11, 12, 13, 14, 15, 16, 17, 18

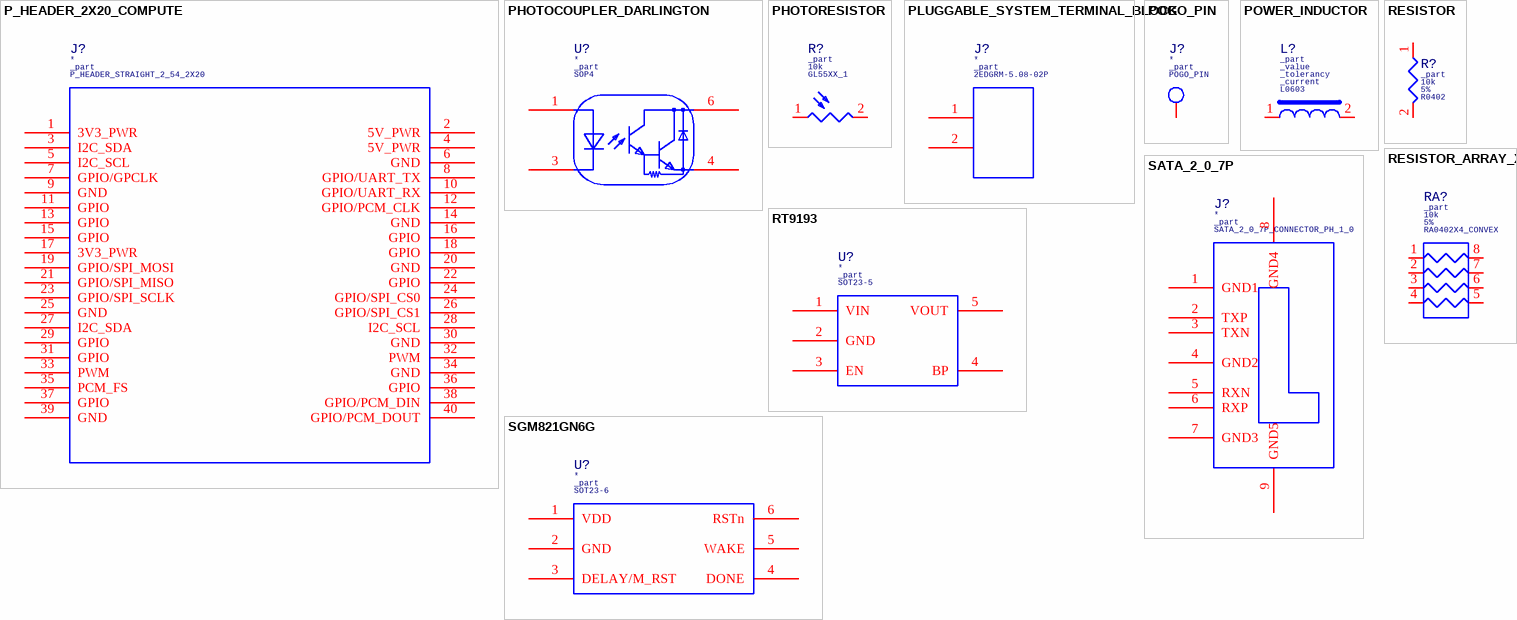
[diagram p5: symbols P_HEADER_2X20_COMPUTE to SGM821GN6G]

## P_HEADER_2X20_COMPUTE
designator J?  Part Reference: _part
Manufacturer: _manufacturer
footprint P_HEADER_STRAIGHT_2_54_2X20
pins: 1 3V3_PWR, 2 5V_PWR, 3 I2C_SDA, 4 5V_PWR, 5 I2C_SCL, 6 GND, 7 GPIO/GPCLK, 8 GPIO/UART_TX, 9 GND, 10 GPIO/UART_RX, 11 GPIO, 12 GPIO/PCM_CLK, 13 GPIO, 14 GND, 15 GPIO, 16 GPIO, 17 3V3_PWR, 18 GPIO, 19 GPIO/SPI_MOSI, 20 GND, 21 GPIO/SPI_MISO, 22 GPIO, 23 GPIO/SPI_SCLK, 24 GPIO/SPI_CS0, 25 GND, 26 GPIO/SPI_CS1, 27 I2C_SDA, 28 I2C_SCL, 29 GPIO, 30 GND, 31 GPIO, 32 PWM, 33 PWM, 34 GND, 35 PCM_FS, 36 GPIO, 37 GPIO, 38 GPIO/PCM_DIN, 39 GND, 40 GPIO/PCM_DOUT

## PHOTOCOUPLER_DARLINGTON
designator U?  Part Reference: _part
Manufacturer: _manufacturer
footprint SOP4
pins: 1, 3, 4, 6

## PHOTORESISTOR
designator R?  value 10k  Part Reference: _part  (hidden comment: *)
Manufacturer: _manufacturer
footprint GL55XX_1 (Photoresistor 3mm pitch)
footprint GL55XX_2 (Photoresistor 3mm pitch)
pins: 1, 2

## PLUGGABLE_SYSTEM_TERMINAL_BLOCK
designator J?  Part Reference: _part
Manufacturer: _manufacturer
footprint 2EDGRM-5.08-02P
pins: 1, 2

## POGO_PIN
designator J?  Part Reference: _part
Manufacturer: _manufacturer
footprint POGO_PIN
pins: 1

## POWER_INDUCTOR
designator L?  value _value  Part Reference: _part  Current: _current  Tolerancy: _tolerancy  (hidden comment: *)
Manufacturer: _manufacturer
footprint L0603
footprint L1812
footprint L1206
footprint CD32
footprint CD43
footprint CD127
footprint CDRH74
footprint IND-SMD_L7.0-W6.6
pins: 1, 2

## RESISTOR
designator R?  value 10k  Tolerancy: 5%  Part Reference: _part  (hidden comment: *)
Manufacturer: _manufacturer
footprint R0402
footprint R0603
footprint R0805
footprint R1206
footprint R2512 (High Power Current Sensing Resistors RLP Series R>4m?)
footprint R2512_2 (High Power Current Sensing Resistors RLP Series R ?4m?)
footprint R0201
pins: 1, 2

## RESISTOR_ARRAY_X4
designator RA?  value 10k  Tolerancy: 5%  Part Reference: _part  (hidden comment: *)
Manufacturer: _manufacturer
footprint RA0402X4_CONVEX
footprint RA0603X4_CONVEX
pins: 1, 2, 3, 4, 5, 6, 7, 8

## RT9193
designator U?  Part Reference: _part
Manufacturer: _manufacturer
footprint SOT23-5
pins: 1 VIN, 2 GND, 3 EN, 4 BP, 5 VOUT

## SATA_2_0_7P
designator J?  Part Reference: _part
Manufacturer: _manufacturer
footprint SATA_2_0_7P_CONNECTOR_PH_1_0
footprint SATA_2_0_7P_CONNECTOR_PH_1_5
pins: 1 GND1, 2 TXP, 3 TXN, 4 GND2, 5 RXN, 6 RXP, 7 GND3, 8 GND4, 9 GND5

## SGM821GN6G
designator U?  Part Reference: _part
Manufacturer: _manufacturer
footprint SOT23-6
pins: 1 VDD, 2 GND, 3 DELAY/M_RST, 4 DONE, 5 WAKE, 6 RSTn

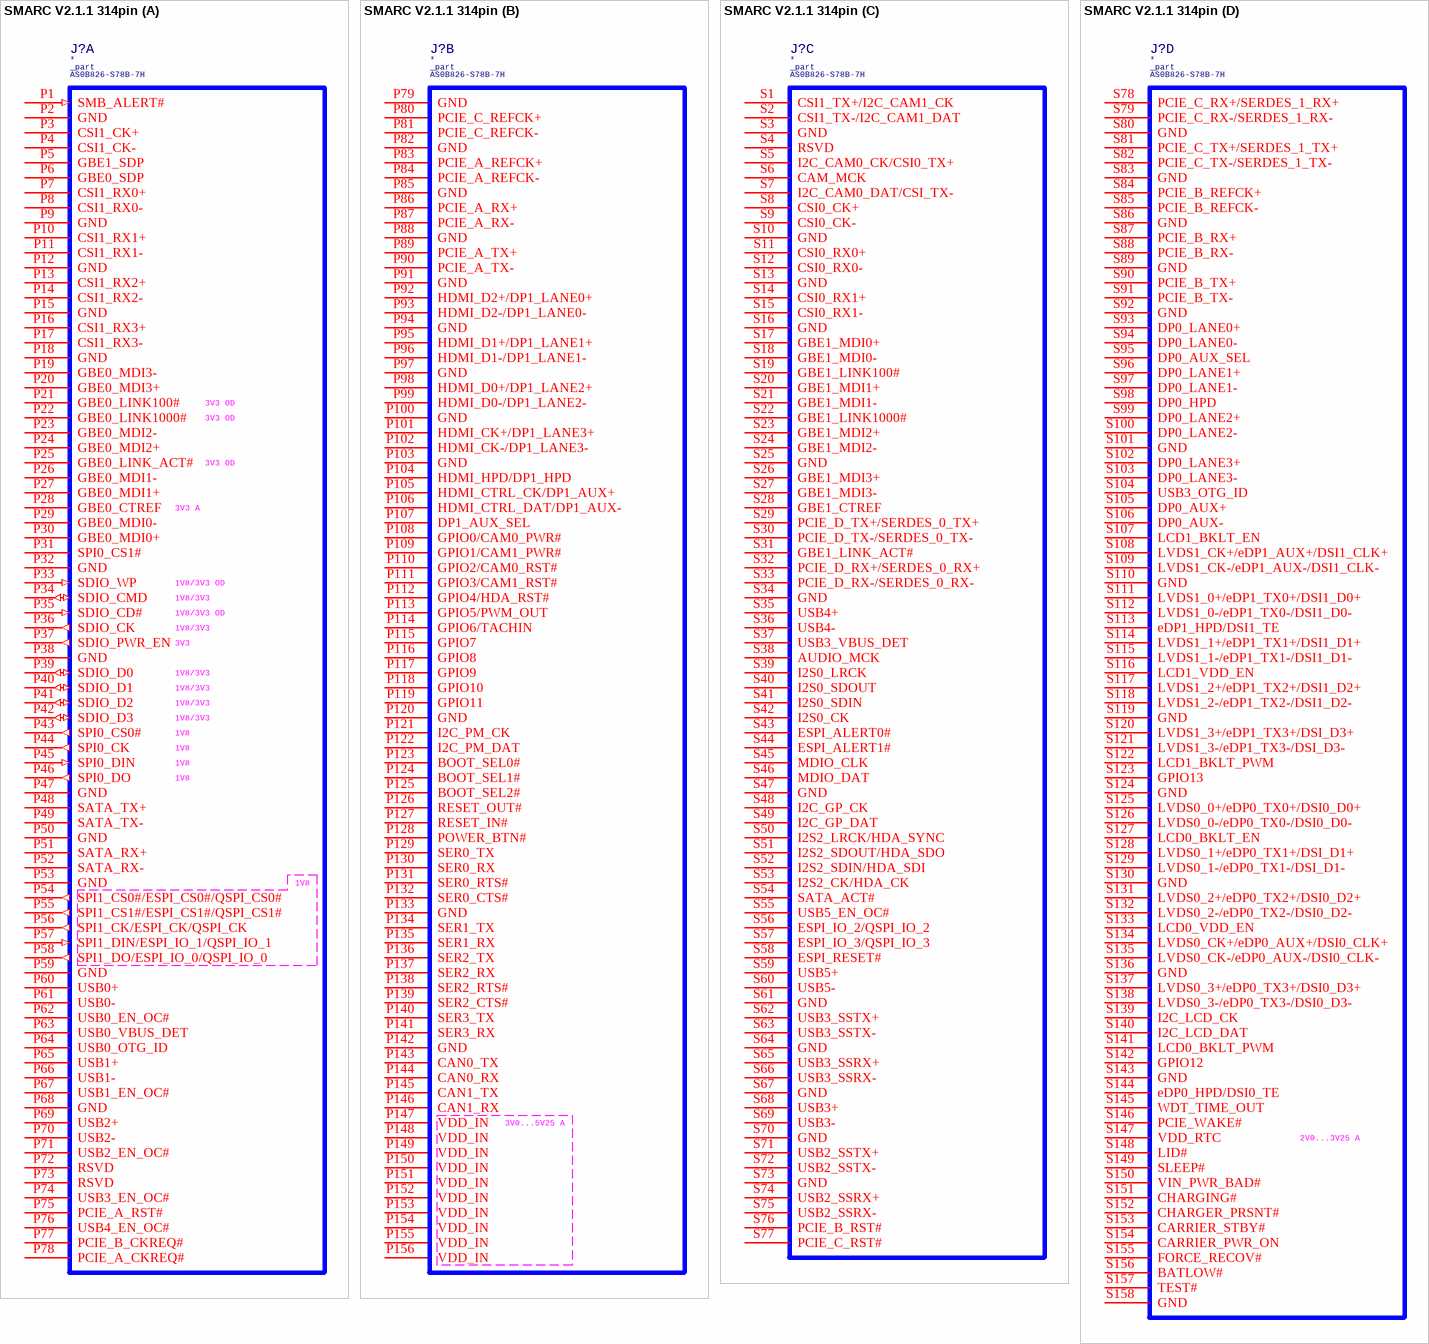
[diagram p6: symbol SMARC V2.1.1 314pin]

## SMARC V2.1.1 314pin
designator J?  Part Reference: _part
Manufacturer: _manufacturer
footprint AS0B826-S78B-7H (314pin MXM3.0 CONNECTOR)
part A pins: P1 SMB_ALERT# (in), P2 GND (power), P3 CSI1_CK+, P4 CSI1_CK-, P5 GBE1_SDP, P6 GBE0_SDP, P7 CSI1_RX0+, P8 CSI1_RX0-, P9 GND (power), P10 CSI1_RX1+, P11 CSI1_RX1-, P12 GND (power), P13 CSI1_RX2+, P14 CSI1_RX2-, P15 GND (power), P16 CSI1_RX3+, P17 CSI1_RX3-, P18 GND (power), P19 GBE0_MDI3-, P20 GBE0_MDI3+, P21 GBE0_LINK100#, P22 GBE0_LINK1000#, P23 GBE0_MDI2-, P24 GBE0_MDI2+, P25 GBE0_LINK_ACT#, P26 GBE0_MDI1-, P27 GBE0_MDI1+, P28 GBE0_CTREF, P29 GBE0_MDI0-, P30 GBE0_MDI0+, P31 SPI0_CS1#, P32 GND (power), P33 SDIO_WP (in), P34 SDIO_CMD (io), P35 SDIO_CD# (in), P36 SDIO_CK (out), P37 SDIO_PWR_EN (out), P38 GND (power), P39 SDIO_D0 (io), P40 SDIO_D1 (io), P41 SDIO_D2 (io), P42 SDIO_D3 (io), P43 SPI0_CS0# (out), P44 SPI0_CK (out), P45 SPI0_DIN (in), P46 SPI0_DO (out), P47 GND (power), P48 SATA_TX+, P49 SATA_TX-, P50 GND (power), P51 SATA_RX+, P52 SATA_RX-, P53 GND (power), P54 SPI1_CS0#/ESPI_CS0#/QSPI_CS0# (out), P55 SPI1_CS1#/ESPI_CS1#/QSPI_CS1# (out), P56 SPI1_CK/ESPI_CK/QSPI_CK (out), P57 SPI1_DIN/ESPI_IO_1/QSPI_IO_1 (in), P58 SPI1_DO/ESPI_IO_0/QSPI_IO_0 (out), P59 GND (power), P60 USB0+, P61 USB0-, P62 USB0_EN_OC#, P63 USB0_VBUS_DET, P64 USB0_OTG_ID, P65 USB1+, P66 USB1-, P67 USB1_EN_OC#, P68 GND (power), P69 USB2+, P70 USB2-, P71 USB2_EN_OC#, P72 RSVD, P73 RSVD, P74 USB3_EN_OC#, P75 PCIE_A_RST#, P76 USB4_EN_OC#, P77 PCIE_B_CKREQ#, P78 PCIE_A_CKREQ#
part B pins: P79 GND (power), P80 PCIE_C_REFCK+, P81 PCIE_C_REFCK-, P82 GND (power), P83 PCIE_A_REFCK+, P84 PCIE_A_REFCK-, P85 GND (power), P86 PCIE_A_RX+, P87 PCIE_A_RX-, P88 GND (power), P89 PCIE_A_TX+, P90 PCIE_A_TX-, P91 GND (power), P92 HDMI_D2+/DP1_LANE0+, P93 HDMI_D2-/DP1_LANE0-, P94 GND (power), P95 HDMI_D1+/DP1_LANE1+, P96 HDMI_D1-/DP1_LANE1-, P97 GND (power), P98 HDMI_D0+/DP1_LANE2+, P99 HDMI_D0-/DP1_LANE2-, P100 GND (power), P101 HDMI_CK+/DP1_LANE3+, P102 HDMI_CK-/DP1_LANE3-, P103 GND (power), P104 HDMI_HPD/DP1_HPD, P105 HDMI_CTRL_CK/DP1_AUX+, P106 HDMI_CTRL_DAT/DP1_AUX-, P107 DP1_AUX_SEL, P108 GPIO0/CAM0_PWR#, P109 GPIO1/CAM1_PWR#, P110 GPIO2/CAM0_RST#, P111 GPIO3/CAM1_RST#, P112 GPIO4/HDA_RST#, P113 GPIO5/PWM_OUT, P114 GPIO6/TACHIN, P115 GPIO7, P116 GPIO8, P117 GPIO9, P118 GPIO10, P119 GPIO11, P120 GND (power), P121 I2C_PM_CK, P122 I2C_PM_DAT, P123 BOOT_SEL0#, P124 BOOT_SEL1#, P125 BOOT_SEL2#, P126 RESET_OUT#, P127 RESET_IN#, P128 POWER_BTN#, P129 SER0_TX, P130 SER0_RX, P131 SER0_RTS#, P132 SER0_CTS#, P133 GND (power), P134 SER1_TX, P135 SER1_RX, P136 SER2_TX, P137 SER2_RX, P138 SER2_RTS#, P139 SER2_CTS#, P140 SER3_TX, P141 SER3_RX, P142 GND (power), P143 CAN0_TX, P144 CAN0_RX, P145 CAN1_TX, P146 CAN1_RX, P147 VDD_IN, P148 VDD_IN, P149 VDD_IN, P150 VDD_IN, P151 VDD_IN, P152 VDD_IN, P153 VDD_IN, P154 VDD_IN, P155 VDD_IN, P156 VDD_IN
part C pins: S1 CSI1_TX+/I2C_CAM1_CK, S2 CSI1_TX-/I2C_CAM1_DAT, S3 GND (power), S4 RSVD, S5 I2C_CAM0_CK/CSI0_TX+, S6 CAM_MCK, S7 I2C_CAM0_DAT/CSI_TX-, S8 CSI0_CK+, S9 CSI0_CK-, S10 GND (power), S11 CSI0_RX0+, S12 CSI0_RX0-, S13 GND (power), S14 CSI0_RX1+, S15 CSI0_RX1-, S16 GND (power), S17 GBE1_MDI0+, S18 GBE1_MDI0-, S19 GBE1_LINK100#, S20 GBE1_MDI1+, S21 GBE1_MDI1-, S22 GBE1_LINK1000#, S23 GBE1_MDI2+, S24 GBE1_MDI2-, S25 GND (power), S26 GBE1_MDI3+, S27 GBE1_MDI3-, S28 GBE1_CTREF, S29 PCIE_D_TX+/SERDES_0_TX+, S30 PCIE_D_TX-/SERDES_0_TX-, S31 GBE1_LINK_ACT#, S32 PCIE_D_RX+/SERDES_0_RX+, S33 PCIE_D_RX-/SERDES_0_RX-, S34 GND (power), S35 USB4+, S36 USB4-, S37 USB3_VBUS_DET, S38 AUDIO_MCK, S39 I2S0_LRCK, S40 I2S0_SDOUT, S41 I2S0_SDIN, S42 I2S0_CK, S43 ESPI_ALERT0#, S44 ESPI_ALERT1#, S45 MDIO_CLK, S46 MDIO_DAT, S47 GND (power), S48 I2C_GP_CK, S49 I2C_GP_DAT, S50 I2S2_LRCK/HDA_SYNC, S51 I2S2_SDOUT/HDA_SDO, S52 I2S2_SDIN/HDA_SDI, S53 I2S2_CK/HDA_CK, S54 SATA_ACT#, S55 USB5_EN_OC#, S56 ESPI_IO_2/QSPI_IO_2, S57 ESPI_IO_3/QSPI_IO_3, S58 ESPI_RESET#, S59 USB5+, S60 USB5-, S61 GND (power), S62 USB3_SSTX+, S63 USB3_SSTX-, S64 GND (power), S65 USB3_SSRX+, S66 USB3_SSRX-, S67 GND (power), S68 USB3+, S69 USB3-, S70 GND (power), S71 USB2_SSTX+, S72 USB2_SSTX-, S73 GND (power), S74 USB2_SSRX+, S75 USB2_SSRX-, S76 PCIE_B_RST#, S77 PCIE_C_RST#
part D pins: S78 PCIE_C_RX+/SERDES_1_RX+, S79 PCIE_C_RX-/SERDES_1_RX-, S80 GND (power), S81 PCIE_C_TX+/SERDES_1_TX+, S82 PCIE_C_TX-/SERDES_1_TX-, S83 GND (power), S84 PCIE_B_REFCK+, S85 PCIE_B_REFCK-, S86 GND (power), S87 PCIE_B_RX+, S88 PCIE_B_RX-, S89 GND (power), S90 PCIE_B_TX+, S91 PCIE_B_TX-, S92 GND (power), S93 DP0_LANE0+, S94 DP0_LANE0-, S95 DP0_AUX_SEL, S96 DP0_LANE1+, S97 DP0_LANE1-, S98 DP0_HPD, S99 DP0_LANE2+, S100 DP0_LANE2-, S101 GND (power), S102 DP0_LANE3+, S103 DP0_LANE3-, S104 USB3_OTG_ID, S105 DP0_AUX+, S106 DP0_AUX-, S107 LCD1_BKLT_EN, S108 LVDS1_CK+/eDP1_AUX+/DSI1_CLK+, S109 LVDS1_CK-/eDP1_AUX-/DSI1_CLK-, S110 GND (power), S111 LVDS1_0+/eDP1_TX0+/DSI1_D0+, S112 LVDS1_0-/eDP1_TX0-/DSI1_D0-, S113 eDP1_HPD/DSI1_TE, S114 LVDS1_1+/eDP1_TX1+/DSI1_D1+, S115 LVDS1_1-/eDP1_TX1-/DSI1_D1-, S116 LCD1_VDD_EN, S117 LVDS1_2+/eDP1_TX2+/DSI1_D2+, S118 LVDS1_2-/eDP1_TX2-/DSI1_D2-, S119 GND (power), S120 LVDS1_3+/eDP1_TX3+/DSI_D3+, S121 LVDS1_3-/eDP1_TX3-/DSI_D3-, S122 LCD1_BKLT_PWM, S123 GPIO13, S124 GND (power), S125 LVDS0_0+/eDP0_TX0+/DSI0_D0+, S126 LVDS0_0-/eDP0_TX0-/DSI0_D0-, S127 LCD0_BKLT_EN, S128 LVDS0_1+/eDP0_TX1+/DSI_D1+, S129 LVDS0_1-/eDP0_TX1-/DSI_D1-, S130 GND (power), S131 LVDS0_2+/eDP0_TX2+/DSI0_D2+, S132 LVDS0_2-/eDP0_TX2-/DSI0_D2-, S133 LCD0_VDD_EN, S134 LVDS0_CK+/eDP0_AUX+/DSI0_CLK+, S135 LVDS0_CK-/eDP0_AUX-/DSI0_CLK-, S136 GND (power), S137 LVDS0_3+/eDP0_TX3+/DSI0_D3+, S138 LVDS0_3-/eDP0_TX3-/DSI0_D3-, S139 I2C_LCD_CK, S140 I2C_LCD_DAT, S141 LCD0_BKLT_PWM, S142 GPIO12, S143 GND (power), S144 eDP0_HPD/DSI0_TE, S145 WDT_TIME_OUT, S146 PCIE_WAKE#, S147 VDD_RTC, S148 LID#, S149 SLEEP#, S150 VIN_PWR_BAD#, S151 CHARGING#, S152 CHARGER_PRSNT#, S153 CARRIER_STBY#, S154 CARRIER_PWR_ON, S155 FORCE_RECOV#, S156 BATLOW#, S157 TEST#, S158 GND (power)
part A text: 3V3 OD; 3V3 A; 1V8/3V3 OD; 1V8/3V3; 3V3; 1V8
part B text: 3V0...5V25 A
part D text: 2V0...3V25 A

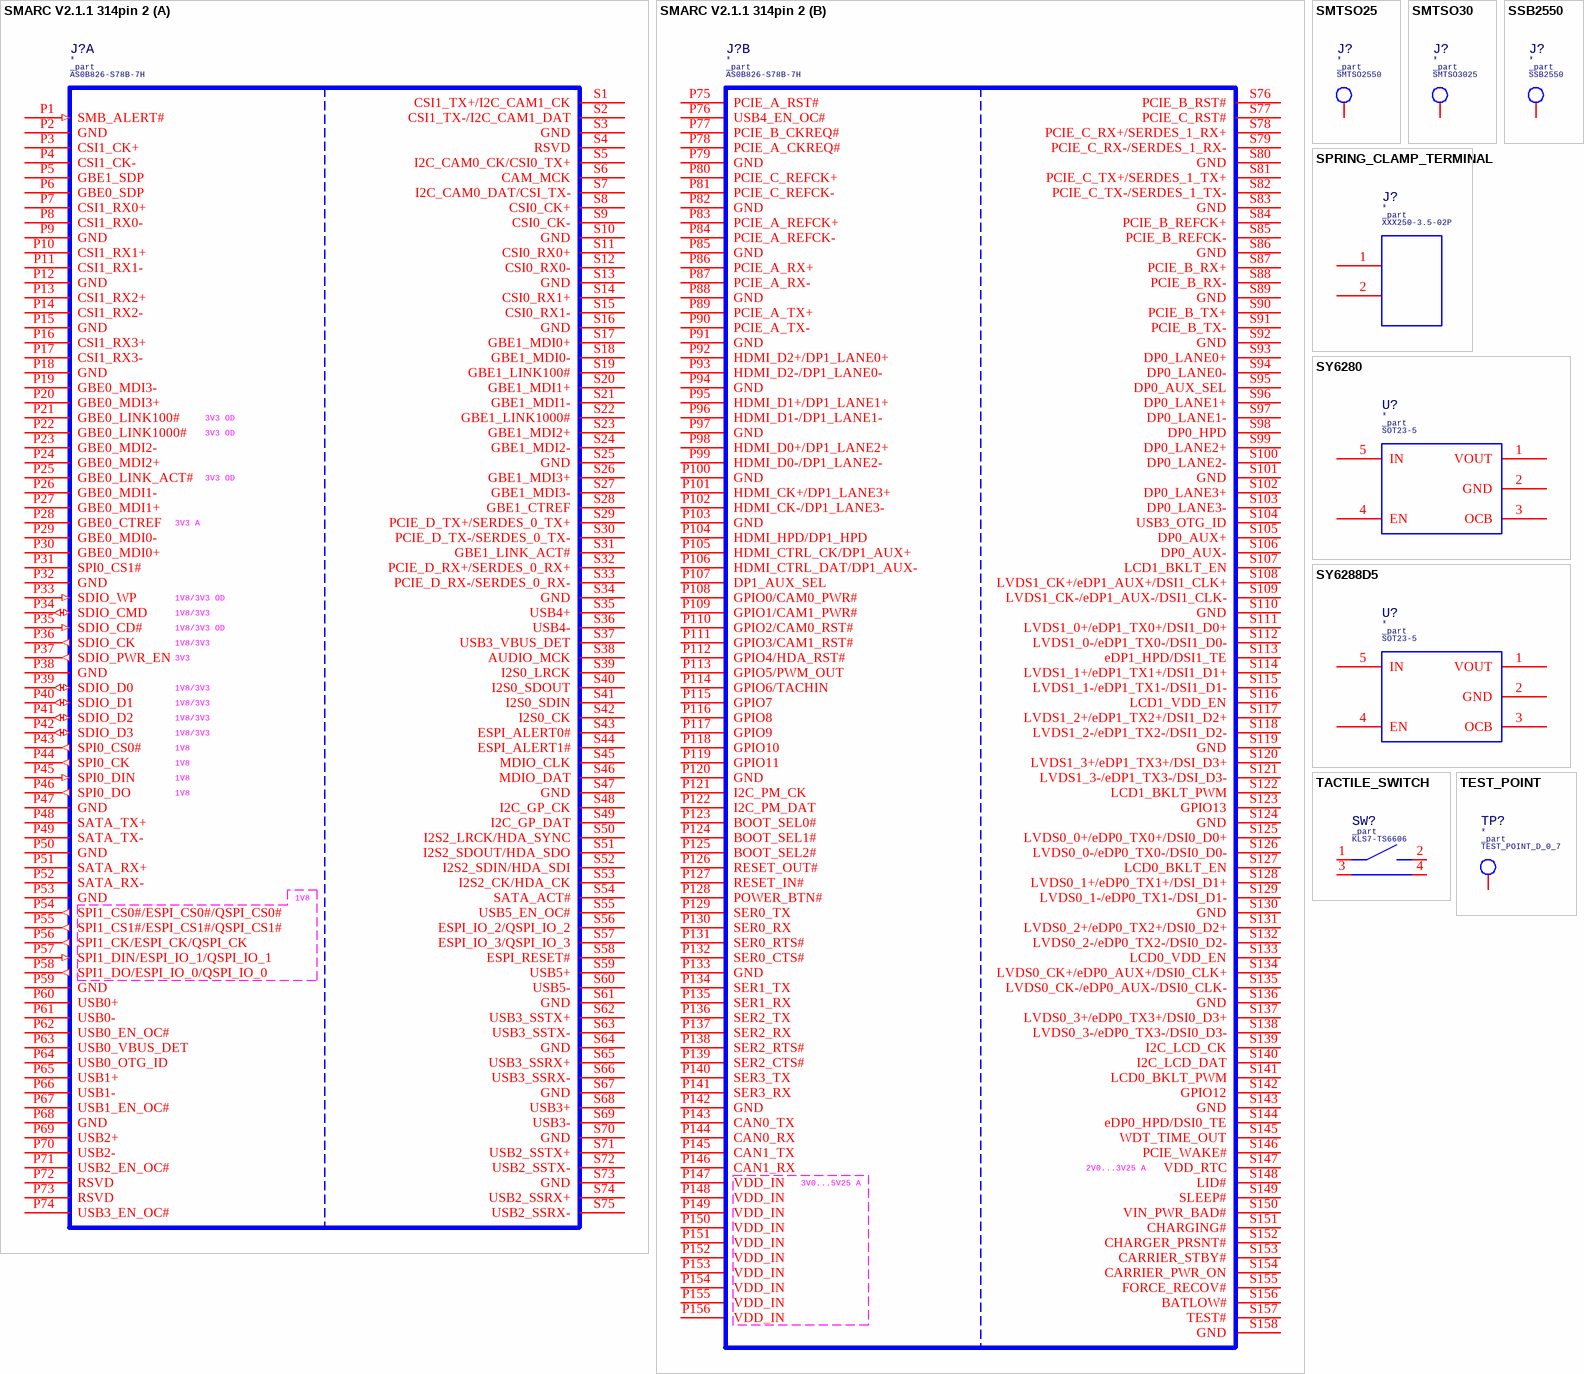
[diagram p7: symbols SMARC V2.1.1 314pin 2 to TEST_POINT]

## SMARC V2.1.1 314pin 2
designator J?  Part Reference: _part
Manufacturer: _manufacturer
footprint AS0B826-S78B-7H (314pin MXM3.0 CONNECTOR)
part A pins: P1 SMB_ALERT# (in), P2 GND (power), P3 CSI1_CK+, P4 CSI1_CK-, P5 GBE1_SDP, P6 GBE0_SDP, P7 CSI1_RX0+, P8 CSI1_RX0-, P9 GND (power), P10 CSI1_RX1+, P11 CSI1_RX1-, P12 GND (power), P13 CSI1_RX2+, P14 CSI1_RX2-, P15 GND (power), P16 CSI1_RX3+, P17 CSI1_RX3-, P18 GND (power), P19 GBE0_MDI3-, P20 GBE0_MDI3+, P21 GBE0_LINK100#, P22 GBE0_LINK1000#, P23 GBE0_MDI2-, P24 GBE0_MDI2+, P25 GBE0_LINK_ACT#, P26 GBE0_MDI1-, P27 GBE0_MDI1+, P28 GBE0_CTREF, P29 GBE0_MDI0-, P30 GBE0_MDI0+, P31 SPI0_CS1#, P32 GND (power), P33 SDIO_WP (in), P34 SDIO_CMD (io), P35 SDIO_CD# (in), P36 SDIO_CK (out), P37 SDIO_PWR_EN (out), P38 GND (power), P39 SDIO_D0 (io), P40 SDIO_D1 (io), P41 SDIO_D2 (io), P42 SDIO_D3 (io), P43 SPI0_CS0# (out), P44 SPI0_CK (out), P45 SPI0_DIN (in), P46 SPI0_DO (out), P47 GND (power), P48 SATA_TX+, P49 SATA_TX-, P50 GND (power), P51 SATA_RX+, P52 SATA_RX-, P53 GND (power), P54 SPI1_CS0#/ESPI_CS0#/QSPI_CS0# (out), P55 SPI1_CS1#/ESPI_CS1#/QSPI_CS1# (out), P56 SPI1_CK/ESPI_CK/QSPI_CK (out), P57 SPI1_DIN/ESPI_IO_1/QSPI_IO_1 (in), P58 SPI1_DO/ESPI_IO_0/QSPI_IO_0 (out), P59 GND (power), P60 USB0+, P61 USB0-, P62 USB0_EN_OC#, P63 USB0_VBUS_DET, P64 USB0_OTG_ID, P65 USB1+, P66 USB1-, P67 USB1_EN_OC#, P68 GND (power), P69 USB2+, P70 USB2-, P71 USB2_EN_OC#, P72 RSVD, P73 RSVD, P74 USB3_EN_OC#, S1 CSI1_TX+/I2C_CAM1_CK, S2 CSI1_TX-/I2C_CAM1_DAT, S3 GND (power), S4 RSVD, S5 I2C_CAM0_CK/CSI0_TX+, S6 CAM_MCK, S7 I2C_CAM0_DAT/CSI_TX-, S8 CSI0_CK+, S9 CSI0_CK-, S10 GND (power), S11 CSI0_RX0+, S12 CSI0_RX0-, S13 GND (power), S14 CSI0_RX1+, S15 CSI0_RX1-, S16 GND (power), S17 GBE1_MDI0+, S18 GBE1_MDI0-, S19 GBE1_LINK100#, S20 GBE1_MDI1+, S21 GBE1_MDI1-, S22 GBE1_LINK1000#, S23 GBE1_MDI2+, S24 GBE1_MDI2-, S25 GND (power), S26 GBE1_MDI3+, S27 GBE1_MDI3-, S28 GBE1_CTREF, S29 PCIE_D_TX+/SERDES_0_TX+, S30 PCIE_D_TX-/SERDES_0_TX-, S31 GBE1_LINK_ACT#, S32 PCIE_D_RX+/SERDES_0_RX+, S33 PCIE_D_RX-/SERDES_0_RX-, S34 GND (power), S35 USB4+, S36 USB4-, S37 USB3_VBUS_DET, S38 AUDIO_MCK, S39 I2S0_LRCK, S40 I2S0_SDOUT, S41 I2S0_SDIN, S42 I2S0_CK, S43 ESPI_ALERT0#, S44 ESPI_ALERT1#, S45 MDIO_CLK, S46 MDIO_DAT, S47 GND (power), S48 I2C_GP_CK, S49 I2C_GP_DAT, S50 I2S2_LRCK/HDA_SYNC, S51 I2S2_SDOUT/HDA_SDO, S52 I2S2_SDIN/HDA_SDI, S53 I2S2_CK/HDA_CK, S54 SATA_ACT#, S55 USB5_EN_OC#, S56 ESPI_IO_2/QSPI_IO_2, S57 ESPI_IO_3/QSPI_IO_3, S58 ESPI_RESET#, S59 USB5+, S60 USB5-, S61 GND (power), S62 USB3_SSTX+, S63 USB3_SSTX-, S64 GND (power), S65 USB3_SSRX+, S66 USB3_SSRX-, S67 GND (power), S68 USB3+, S69 USB3-, S70 GND (power), S71 USB2_SSTX+, S72 USB2_SSTX-, S73 GND (power), S74 USB2_SSRX+, S75 USB2_SSRX-
part B pins: P75 PCIE_A_RST#, P76 USB4_EN_OC#, P77 PCIE_B_CKREQ#, P78 PCIE_A_CKREQ#, P79 GND (power), P80 PCIE_C_REFCK+, P81 PCIE_C_REFCK-, P82 GND (power), P83 PCIE_A_REFCK+, P84 PCIE_A_REFCK-, P85 GND (power), P86 PCIE_A_RX+, P87 PCIE_A_RX-, P88 GND (power), P89 PCIE_A_TX+, P90 PCIE_A_TX-, P91 GND (power), P92 HDMI_D2+/DP1_LANE0+, P93 HDMI_D2-/DP1_LANE0-, P94 GND (power), P95 HDMI_D1+/DP1_LANE1+, P96 HDMI_D1-/DP1_LANE1-, P97 GND (power), P98 HDMI_D0+/DP1_LANE2+, P99 HDMI_D0-/DP1_LANE2-, P100 GND (power), P101 HDMI_CK+/DP1_LANE3+, P102 HDMI_CK-/DP1_LANE3-, P103 GND (power), P104 HDMI_HPD/DP1_HPD, P105 HDMI_CTRL_CK/DP1_AUX+, P106 HDMI_CTRL_DAT/DP1_AUX-, P107 DP1_AUX_SEL, P108 GPIO0/CAM0_PWR#, P109 GPIO1/CAM1_PWR#, P110 GPIO2/CAM0_RST#, P111 GPIO3/CAM1_RST#, P112 GPIO4/HDA_RST#, P113 GPIO5/PWM_OUT, P114 GPIO6/TACHIN, P115 GPIO7, P116 GPIO8, P117 GPIO9, P118 GPIO10, P119 GPIO11, P120 GND (power), P121 I2C_PM_CK, P122 I2C_PM_DAT, P123 BOOT_SEL0#, P124 BOOT_SEL1#, P125 BOOT_SEL2#, P126 RESET_OUT#, P127 RESET_IN#, P128 POWER_BTN#, P129 SER0_TX, P130 SER0_RX, P131 SER0_RTS#, P132 SER0_CTS#, P133 GND (power), P134 SER1_TX, P135 SER1_RX, P136 SER2_TX, P137 SER2_RX, P138 SER2_RTS#, P139 SER2_CTS#, P140 SER3_TX, P141 SER3_RX, P142 GND (power), P143 CAN0_TX, P144 CAN0_RX, P145 CAN1_TX, P146 CAN1_RX, P147 VDD_IN, P148 VDD_IN, P149 VDD_IN, P150 VDD_IN, P151 VDD_IN, P152 VDD_IN, P153 VDD_IN, P154 VDD_IN, P155 VDD_IN, P156 VDD_IN, S76 PCIE_B_RST#, S77 PCIE_C_RST#, S78 PCIE_C_RX+/SERDES_1_RX+, S79 PCIE_C_RX-/SERDES_1_RX-, S80 GND (power), S81 PCIE_C_TX+/SERDES_1_TX+, S82 PCIE_C_TX-/SERDES_1_TX-, S83 GND (power), S84 PCIE_B_REFCK+, S85 PCIE_B_REFCK-, S86 GND (power), S87 PCIE_B_RX+, S88 PCIE_B_RX-, S89 GND (power), S90 PCIE_B_TX+, S91 PCIE_B_TX-, S92 GND (power), S93 DP0_LANE0+, S94 DP0_LANE0-, S95 DP0_AUX_SEL, S96 DP0_LANE1+, S97 DP0_LANE1-, S98 DP0_HPD, S99 DP0_LANE2+, S100 DP0_LANE2-, S101 GND (power), S102 DP0_LANE3+, S103 DP0_LANE3-, S104 USB3_OTG_ID, S105 DP0_AUX+, S106 DP0_AUX-, S107 LCD1_BKLT_EN, S108 LVDS1_CK+/eDP1_AUX+/DSI1_CLK+, S109 LVDS1_CK-/eDP1_AUX-/DSI1_CLK-, S110 GND (power), S111 LVDS1_0+/eDP1_TX0+/DSI1_D0+, S112 LVDS1_0-/eDP1_TX0-/DSI1_D0-, S113 eDP1_HPD/DSI1_TE, S114 LVDS1_1+/eDP1_TX1+/DSI1_D1+, S115 LVDS1_1-/eDP1_TX1-/DSI1_D1-, S116 LCD1_VDD_EN, S117 LVDS1_2+/eDP1_TX2+/DSI1_D2+, S118 LVDS1_2-/eDP1_TX2-/DSI1_D2-, S119 GND (power), S120 LVDS1_3+/eDP1_TX3+/DSI_D3+, S121 LVDS1_3-/eDP1_TX3-/DSI_D3-, S122 LCD1_BKLT_PWM, S123 GPIO13, S124 GND (power), S125 LVDS0_0+/eDP0_TX0+/DSI0_D0+, S126 LVDS0_0-/eDP0_TX0-/DSI0_D0-, S127 LCD0_BKLT_EN, S128 LVDS0_1+/eDP0_TX1+/DSI_D1+, S129 LVDS0_1-/eDP0_TX1-/DSI_D1-, S130 GND (power), S131 LVDS0_2+/eDP0_TX2+/DSI0_D2+, S132 LVDS0_2-/eDP0_TX2-/DSI0_D2-, S133 LCD0_VDD_EN, S134 LVDS0_CK+/eDP0_AUX+/DSI0_CLK+, S135 LVDS0_CK-/eDP0_AUX-/DSI0_CLK-, S136 GND (power), S137 LVDS0_3+/eDP0_TX3+/DSI0_D3+, S138 LVDS0_3-/eDP0_TX3-/DSI0_D3-, S139 I2C_LCD_CK, S140 I2C_LCD_DAT, S141 LCD0_BKLT_PWM, S142 GPIO12, S143 GND (power), S144 eDP0_HPD/DSI0_TE, S145 WDT_TIME_OUT, S146 PCIE_WAKE#, S147 VDD_RTC, S148 LID#, S149 SLEEP#, S150 VIN_PWR_BAD#, S151 CHARGING#, S152 CHARGER_PRSNT#, S153 CARRIER_STBY#, S154 CARRIER_PWR_ON, S155 FORCE_RECOV#, S156 BATLOW#, S157 TEST#, S158 GND (power)
part A text: 3V3 OD; 3V3 A; 1V8/3V3 OD; 1V8/3V3; 3V3; 1V8
part B text: 2V0...3V25 A; 3V0...5V25 A

## SMTSO25
designator J?  Part Reference: _part
Manufacturer: _manufacturer
footprint SMTSO2550
footprint SMTSO2515
pins: 1

## SMTSO30
designator J?  Part Reference: _part
Manufacturer: _manufacturer
footprint SMTSO3025
footprint SMTSO3020
footprint SMTSO30200
footprint SMTSO3050
pins: 1

## SPRING_CLAMP_TERMINAL
designator J?  Part Reference: _part
Manufacturer: _manufacturer
footprint XXX250-3.5-02P (PCB spring terminal blocks,Rated current:10A. Rated voltage (III/2):320V, pitch:3.5mm,Color:gray,Contact surface :Tin)
footprint XXX142R-5.08-02P
pins: 1, 2

## SSB2550
designator J?  Part Reference: _part
Manufacturer: _manufacturer
footprint SSB2550
pins: 1

## SY6280
designator U?  Part Reference: _part
Manufacturer: _manufacturer
footprint SOT23-5
pins: 1 VOUT, 2 GND, 3 OCB, 4 EN, 5 IN

## SY6288D5
designator U?  Part Reference: _part
Manufacturer: _manufacturer
footprint SOT23-5
pins: 1 VOUT, 2 GND, 3 OCB, 4 EN, 5 IN

## TACTILE_SWITCH
designator SW?  Part Reference: _part  (hidden comment: *)
Manufacturer: _manufacturer
footprint KLS7-TS6606
pins: 1, 2, 3, 4

## TEST_POINT
designator TP?  Part Reference: _part  (no BOM)
Manufacturer: _manufacturer
footprint TEST_POINT_D_0_7
footprint TEST_POINT_D_2_0
pins: 1

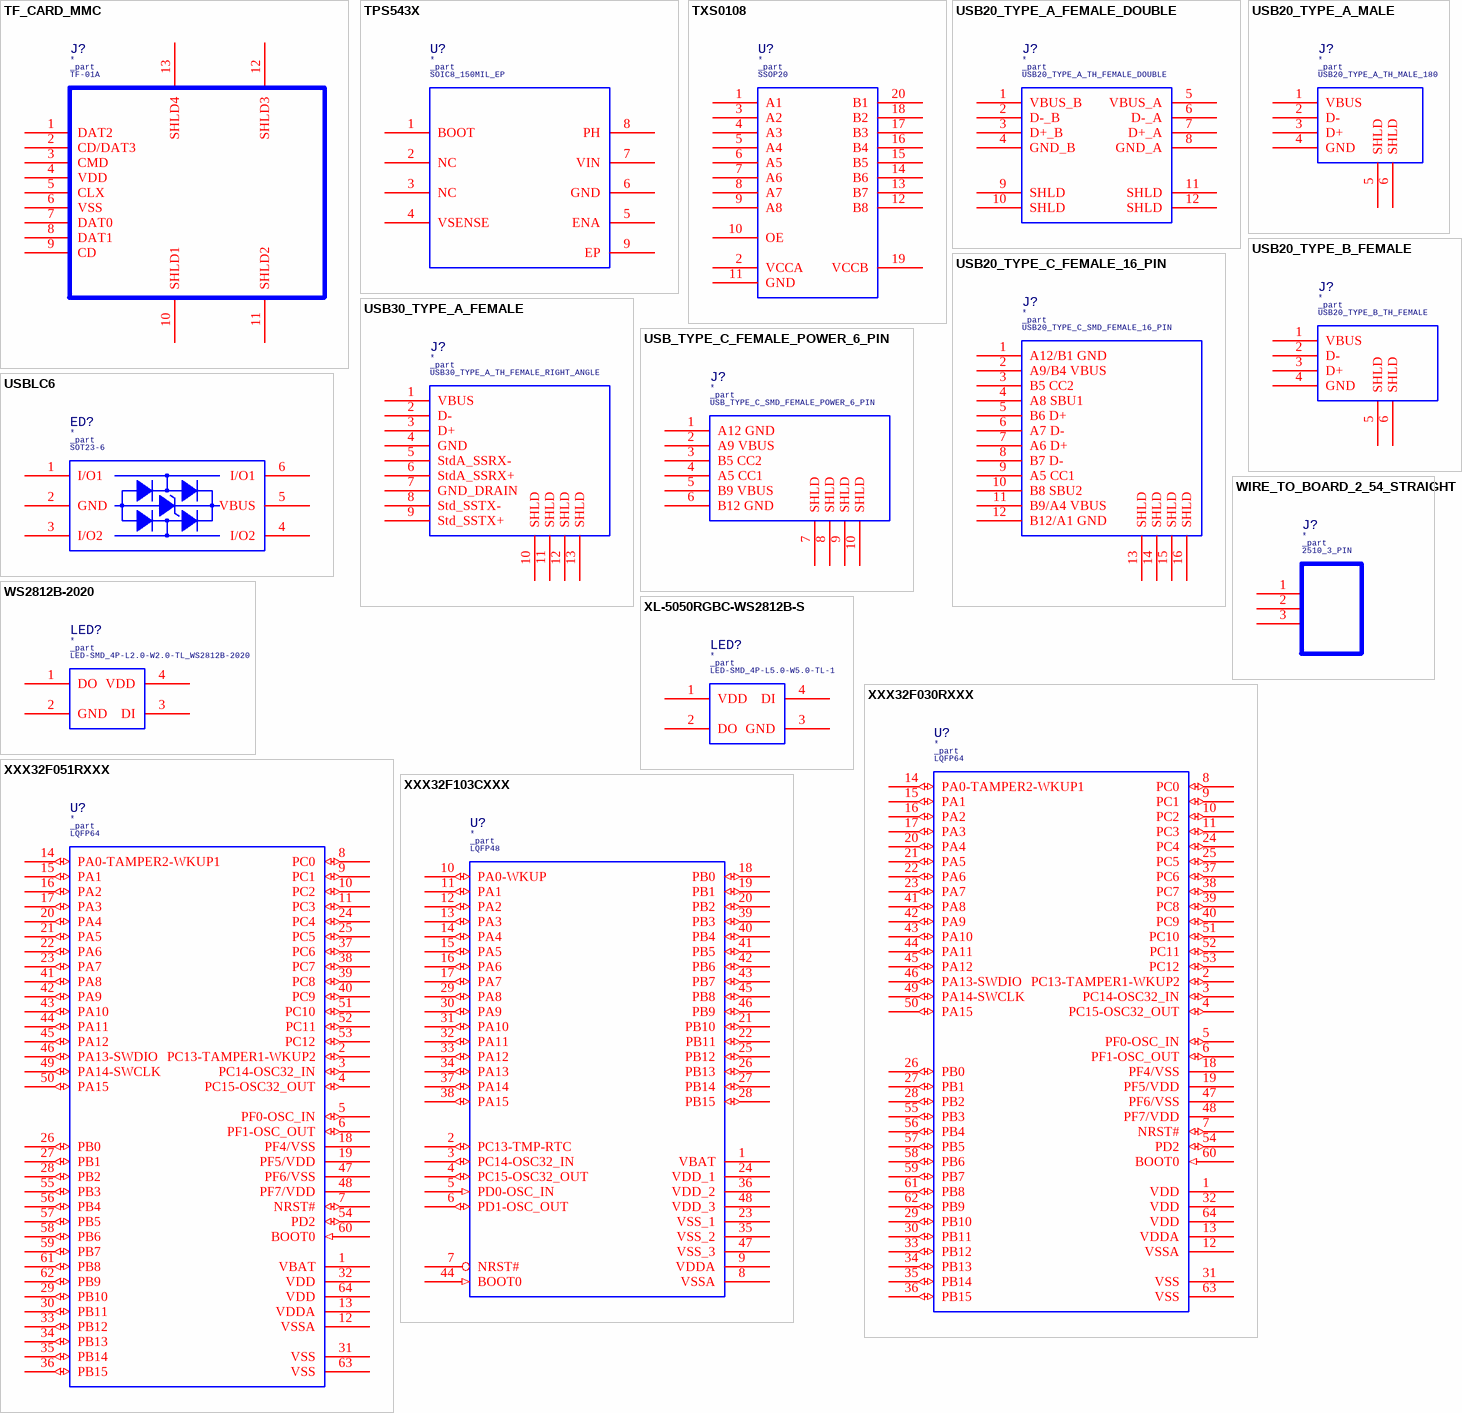
[diagram p8: symbols TF_CARD_MMC to XXX32F103CXXX]

## TF_CARD_MMC
designator J?  Part Reference: _part
Manufacturer: _manufacturer
footprint TF-01A
pins: 1 DAT2, 2 CD/DAT3, 3 CMD, 4 VDD, 5 CLX, 6 VSS, 7 DAT0, 8 DAT1, 9 CD, 10 SHLD1, 11 SHLD2, 12 SHLD3, 13 SHLD4

## TPS543X
designator U?  Part Reference: _part
Manufacturer: _manufacturer
footprint SOIC8_150MIL_EP
pins: 1 BOOT, 2 NC, 3 NC, 4 VSENSE, 5 ENA, 6 GND, 7 VIN, 8 PH, 9 EP

## TXS0108
designator U?  Part Reference: _part
Manufacturer: _manufacturer
footprint SSOP20
pins: 1 A1, 2 VCCA, 3 A2, 4 A3, 5 A4, 6 A5, 7 A6, 8 A7, 9 A8, 10 OE, 11 GND, 12 B8, 13 B7, 14 B6, 15 B5, 16 B4, 17 B3, 18 B2, 19 VCCB, 20 B1

## USB20_TYPE_A_FEMALE_DOUBLE
designator J?  Part Reference: _part
Manufacturer: _manufacturer
footprint USB20_TYPE_A_TH_FEMALE_DOUBLE
pins: 1 VBUS_B, 2 D-_B, 3 D+_B, 4 GND_B, 5 VBUS_A, 6 D-_A, 7 D+_A, 8 GND_A, 9 SHLD, 10 SHLD, 11 SHLD, 12 SHLD

## USB20_TYPE_A_MALE
designator J?  Part Reference: _part
Manufacturer: _manufacturer
footprint USB20_TYPE_A_TH_MALE_180
pins: 1 VBUS, 2 D-, 3 D+, 4 GND, 5 SHLD, 6 SHLD

## USB20_TYPE_B_FEMALE
designator J?  Part Reference: _part
Manufacturer: _manufacturer
footprint USB20_TYPE_B_TH_FEMALE
pins: 1 VBUS, 2 D-, 3 D+, 4 GND, 5 SHLD, 6 SHLD

## USB20_TYPE_C_FEMALE_16_PIN
designator J?  Part Reference: _part
Manufacturer: _manufacturer
footprint USB20_TYPE_C_SMD_FEMALE_16_PIN
pins: 1 A12/B1 GND, 2 A9/B4 VBUS, 3 B5 CC2, 4 A8 SBU1, 5 B6 D+, 6 A7 D-, 7 A6 D+, 8 B7 D-, 9 A5 CC1, 10 B8 SBU2, 11 B9/A4 VBUS, 12 B12/A1 GND, 13 SHLD, 14 SHLD, 15 SHLD, 16 SHLD

## USB30_TYPE_A_FEMALE
designator J?  Part Reference: _part
Manufacturer: _manufacturer
footprint USB30_TYPE_A_TH_FEMALE_RIGHT_ANGLE
pins: 1 VBUS, 2 D-, 3 D+, 4 GND, 5 StdA_SSRX-, 6 StdA_SSRX+, 7 GND_DRAIN, 8 Std_SSTX-, 9 Std_SSTX+, 10 SHLD, 11 SHLD, 12 SHLD, 13 SHLD

## USB_TYPE_C_FEMALE_POWER_6_PIN
designator J?  Part Reference: _part
Manufacturer: _manufacturer
footprint USB_TYPE_C_SMD_FEMALE_POWER_6_PIN
pins: 1 A12 GND, 2 A9 VBUS, 3 B5 CC2, 4 A5 CC1, 5 B9 VBUS, 6 B12 GND, 7 SHLD, 8 SHLD, 9 SHLD, 10 SHLD

## USBLC6
designator ED?  Part Reference: _part
Manufacturer: _manufacturer
footprint SOT23-6
pins: 1 I/O1, 2 GND, 3 I/O2, 4 I/O2, 5 VBUS, 6 I/O1

## WIRE_TO_BOARD_2_54_STRAIGHT
designator J?  Part Reference: _part
Manufacturer: _manufacturer
footprint 2510_3_PIN (DS1070 CONNFLY; KLS1-2.54 KLS; Molex 2510, etc.)
pins: 1, 2, 3

## WS2812B-2020
designator LED?  Part Reference: _part
Manufacturer: _manufacturer
footprint LED-SMD_4P-L2.0-W2.0-TL_WS2812B-2020
pins: 1 DO, 2 GND, 3 DI, 4 VDD

## XL-5050RGBC-WS2812B-S
designator LED?  Part Reference: _part
Manufacturer: _manufacturer
footprint LED-SMD_4P-L5.0-W5.0-TL-1
pins: 1 VDD, 2 DO, 3 GND, 4 DI

## XXX32F030RXXX
designator U?  Part Reference: _part
Manufacturer: _manufacturer
footprint LQFP64
pins: 1 VDD (power), 2 PC13-TAMPER1-WKUP2 (io), 3 PC14-OSC32_IN (io), 4 PC15-OSC32_OUT (io), 5 PF0-OSC_IN (io), 6 PF1-OSC_OUT (io), 7 NRST# (io), 8 PC0 (io), 9 PC1 (io), 10 PC2 (io), 11 PC3 (io), 12 VSSA (power), 13 VDDA (power), 14 PA0-TAMPER2-WKUP1 (io), 15 PA1 (io), 16 PA2 (io), 17 PA3 (io), 18 PF4/VSS (power), 19 PF5/VDD (power), 20 PA4 (io), 21 PA5 (io), 22 PA6 (io), 23 PA7 (io), 24 PC4 (io), 25 PC5 (io), 26 PB0 (io), 27 PB1 (io), 28 PB2 (io), 29 PB10 (io), 30 PB11 (io), 31 VSS (power), 32 VDD (power), 33 PB12 (io), 34 PB13 (io), 35 PB14 (io), 36 PB15 (io), 37 PC6 (io), 38 PC7 (io), 39 PC8 (io), 40 PC9 (io), 41 PA8 (io), 42 PA9 (io), 43 PA10 (io), 44 PA11 (io), 45 PA12 (io), 46 PA13-SWDIO (io), 47 PF6/VSS (power), 48 PF7/VDD (power), 49 PA14-SWCLK (io), 50 PA15 (io), 51 PC10 (io), 52 PC11 (io), 53 PC12 (io), 54 PD2 (io), 55 PB3 (io), 56 PB4 (io), 57 PB5 (io), 58 PB6 (io), 59 PB7 (io), 60 BOOT0 (in), 61 PB8 (io), 62 PB9 (io), 63 VSS (power), 64 VDD (power)

## XXX32F051RXXX
designator U?  Part Reference: _part
Manufacturer: _manufacturer
footprint LQFP64
pins: 1 VBAT (power), 2 PC13-TAMPER1-WKUP2 (io), 3 PC14-OSC32_IN (io), 4 PC15-OSC32_OUT (io), 5 PF0-OSC_IN (io), 6 PF1-OSC_OUT (io), 7 NRST# (io), 8 PC0 (io), 9 PC1 (io), 10 PC2 (io), 11 PC3 (io), 12 VSSA (power), 13 VDDA (power), 14 PA0-TAMPER2-WKUP1 (io), 15 PA1 (io), 16 PA2 (io), 17 PA3 (io), 18 PF4/VSS (power), 19 PF5/VDD (power), 20 PA4 (io), 21 PA5 (io), 22 PA6 (io), 23 PA7 (io), 24 PC4 (io), 25 PC5 (io), 26 PB0 (io), 27 PB1 (io), 28 PB2 (io), 29 PB10 (io), 30 PB11 (io), 31 VSS (power), 32 VDD (power), 33 PB12 (io), 34 PB13 (io), 35 PB14 (io), 36 PB15 (io), 37 PC6 (io), 38 PC7 (io), 39 PC8 (io), 40 PC9 (io), 41 PA8 (io), 42 PA9 (io), 43 PA10 (io), 44 PA11 (io), 45 PA12 (io), 46 PA13-SWDIO (io), 47 PF6/VSS (power), 48 PF7/VDD (power), 49 PA14-SWCLK (io), 50 PA15 (io), 51 PC10 (io), 52 PC11 (io), 53 PC12 (io), 54 PD2 (io), 55 PB3 (io), 56 PB4 (io), 57 PB5 (io), 58 PB6 (io), 59 PB7 (io), 60 BOOT0 (in), 61 PB8 (io), 62 PB9 (io), 63 VSS (power), 64 VDD (power)